# Altium schematic symbol library ICs.SchLib: 182 symbols (part 1 of 2)
Pins are listed as number, name and electrical type; pins without a type are passive.

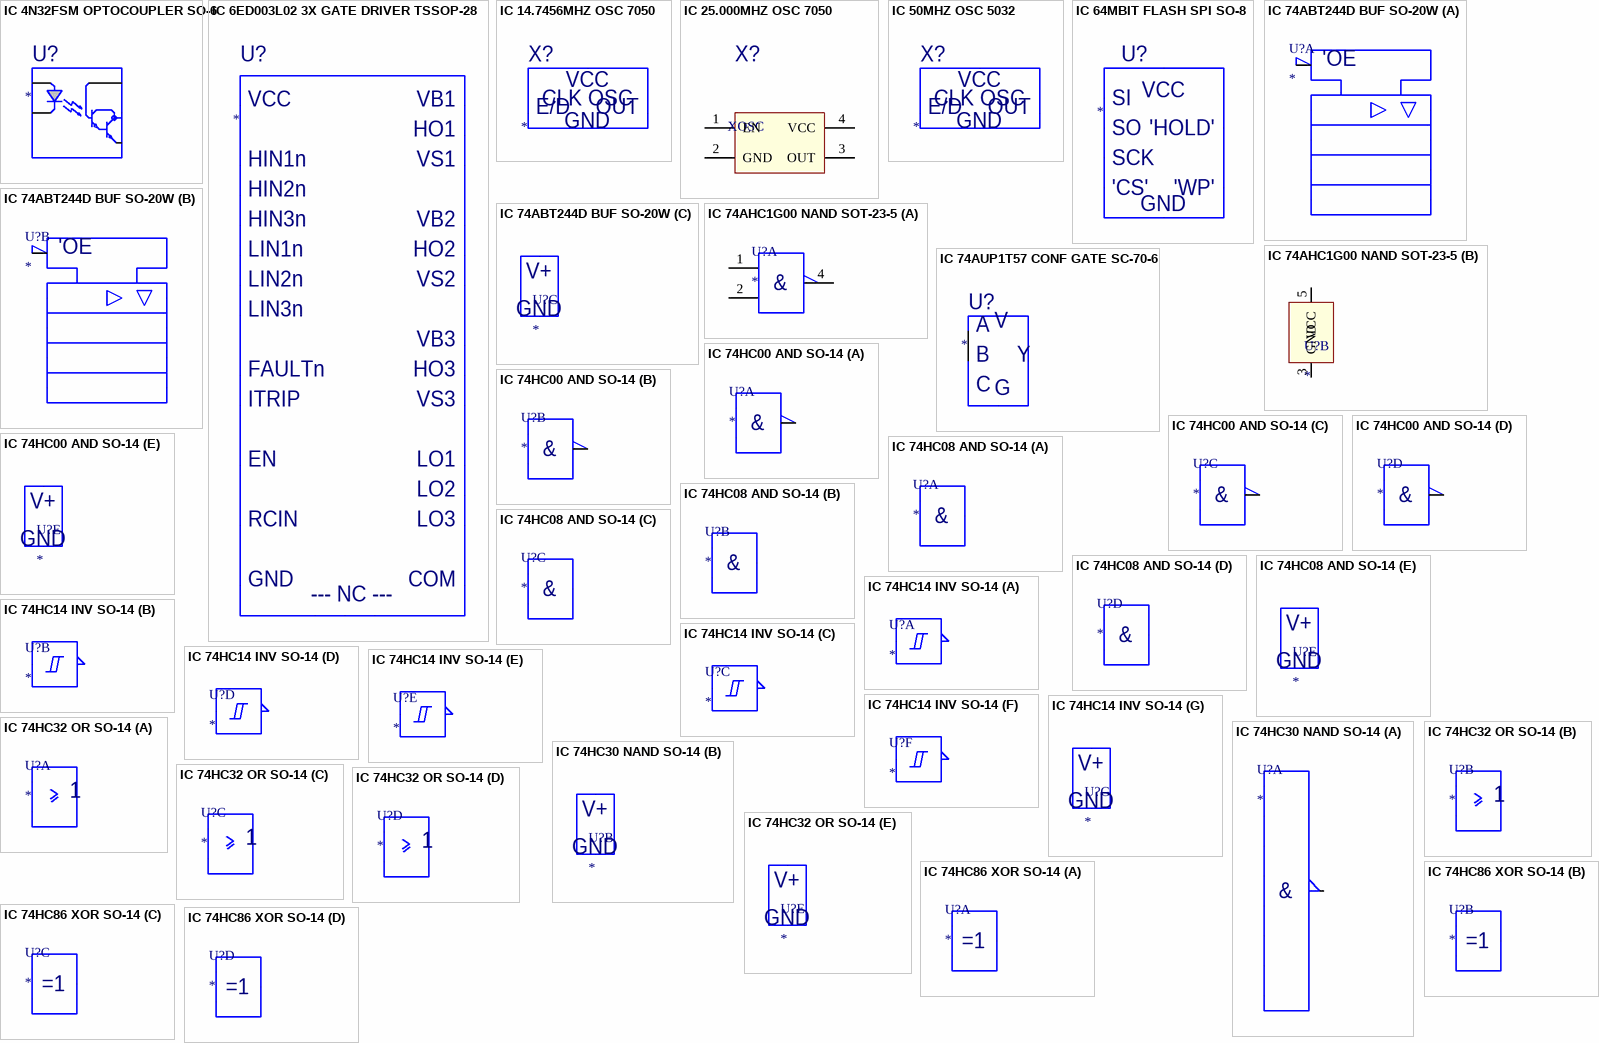
[diagram p0: symbols IC 4N32FSM OPTOCOUPLER SO-6 to IC 74HC86 XOR SO-14]

## IC 4N32FSM OPTOCOUPLER SO-6
designator U?
=Description
pins: 1, 2, 4, 5, 6

## IC 6ED003L02 3X GATE DRIVER TSSOP-28
designator U?
=Description
pins: 1, 2, 3, 4, 5, 6, 7, 8, 9, 10, 11, 12, 13, 14, 15, 16, 17, 18, 19, 20, 21, 22, 23, 24, 25, 26, 27, 28
text: VCC; VB1; HO1; HIN1n; VS1; HIN2n; HIN3n; VB2; LIN1n; HO2; LIN2n; VS2; LIN3n; VB3; FAULTn; HO3; ITRIP; VS3; EN; LO1; LO2; RCIN; LO3; GND; COM; --- NC ---

## IC 14.7456MHZ OSC 7050
designator X?
=Description
pins: 1, 2, 3, 4
text: VCC; CLK OSC; E/D; GND; OUT

## IC 25.000MHZ OSC 7050
designator X?, comment XOSC
=Description
pins: 1 EN, 2 GND, 3 OUT, 4 VCC

## IC 50MHZ OSC 5032
designator X?
=Description
pins: 1, 2, 3, 4
text: VCC; CLK OSC; E/D; GND; OUT

## IC 64MBIT FLASH SPI SO-8
designator U?
=Description
pins: 1, 2, 3, 4, 5, 6, 7, 8
text: VCC; SI; SO; 'HOLD'; SCK; 'CS'; 'WP'; GND

## IC 74ABT244D BUF SO-20W
designator U?
=Description
part A pins: 1, 2, 4, 6, 8, 12, 14, 16, 18
part B pins: 3, 5, 7, 9, 11, 13, 15, 17, 19
part C pins: 10, 20
part A text: 'OE
part B text: 'OE
part C text: V+; GND

## IC 74AHC1G00 NAND SOT-23-5
designator U?
=Description
part A pins: 1 A, 2 B, 4 Y
part B pins: 3 GND, 5 VCC
part A text: &

## IC 74AUP1T57 CONF GATE SC-70-6
designator U?
=Description
pins: 1, 2, 3, 4, 5, 6
text: V; A; B; Y; C; G

## IC 74HC00 AND SO-14
designator U?
=Description
part A pins: 1, 2, 3
part B pins: 4, 5, 6
part C pins: 8, 9, 10
part D pins: 11, 12, 13
part E pins: 7, 14
part A text: &
part B text: &
part C text: &
part D text: &
part E text: V+; GND

## IC 74HC08 AND SO-14
designator U?
=Description
part A pins: 1, 2, 3
part B pins: 4, 5, 6
part C pins: 8, 9, 10
part D pins: 11, 12, 13
part E pins: 7, 14
part A text: &
part B text: &
part C text: &
part D text: &
part E text: V+; GND

## IC 74HC14 INV SO-14
designator U?
=Description
part A pins: 1, 2
part B pins: 3, 4
part C pins: 5, 6
part D pins: 8, 9
part E pins: 10, 11
part F pins: 12, 13
part G pins: 7, 14
part G text: V+; GND

## IC 74HC30 NAND SO-14
designator U?
=Description
part A pins: 1, 2, 3, 4, 5, 6, 8, 11, 12
part B pins: 7, 14
part A text: &
part B text: V+; GND

## IC 74HC32 OR SO-14
designator U?
=Description
part A pins: 1, 2, 3
part B pins: 4, 5, 6
part C pins: 8, 9, 10
part D pins: 11, 12, 13
part E pins: 7, 14
part E text: V+; GND

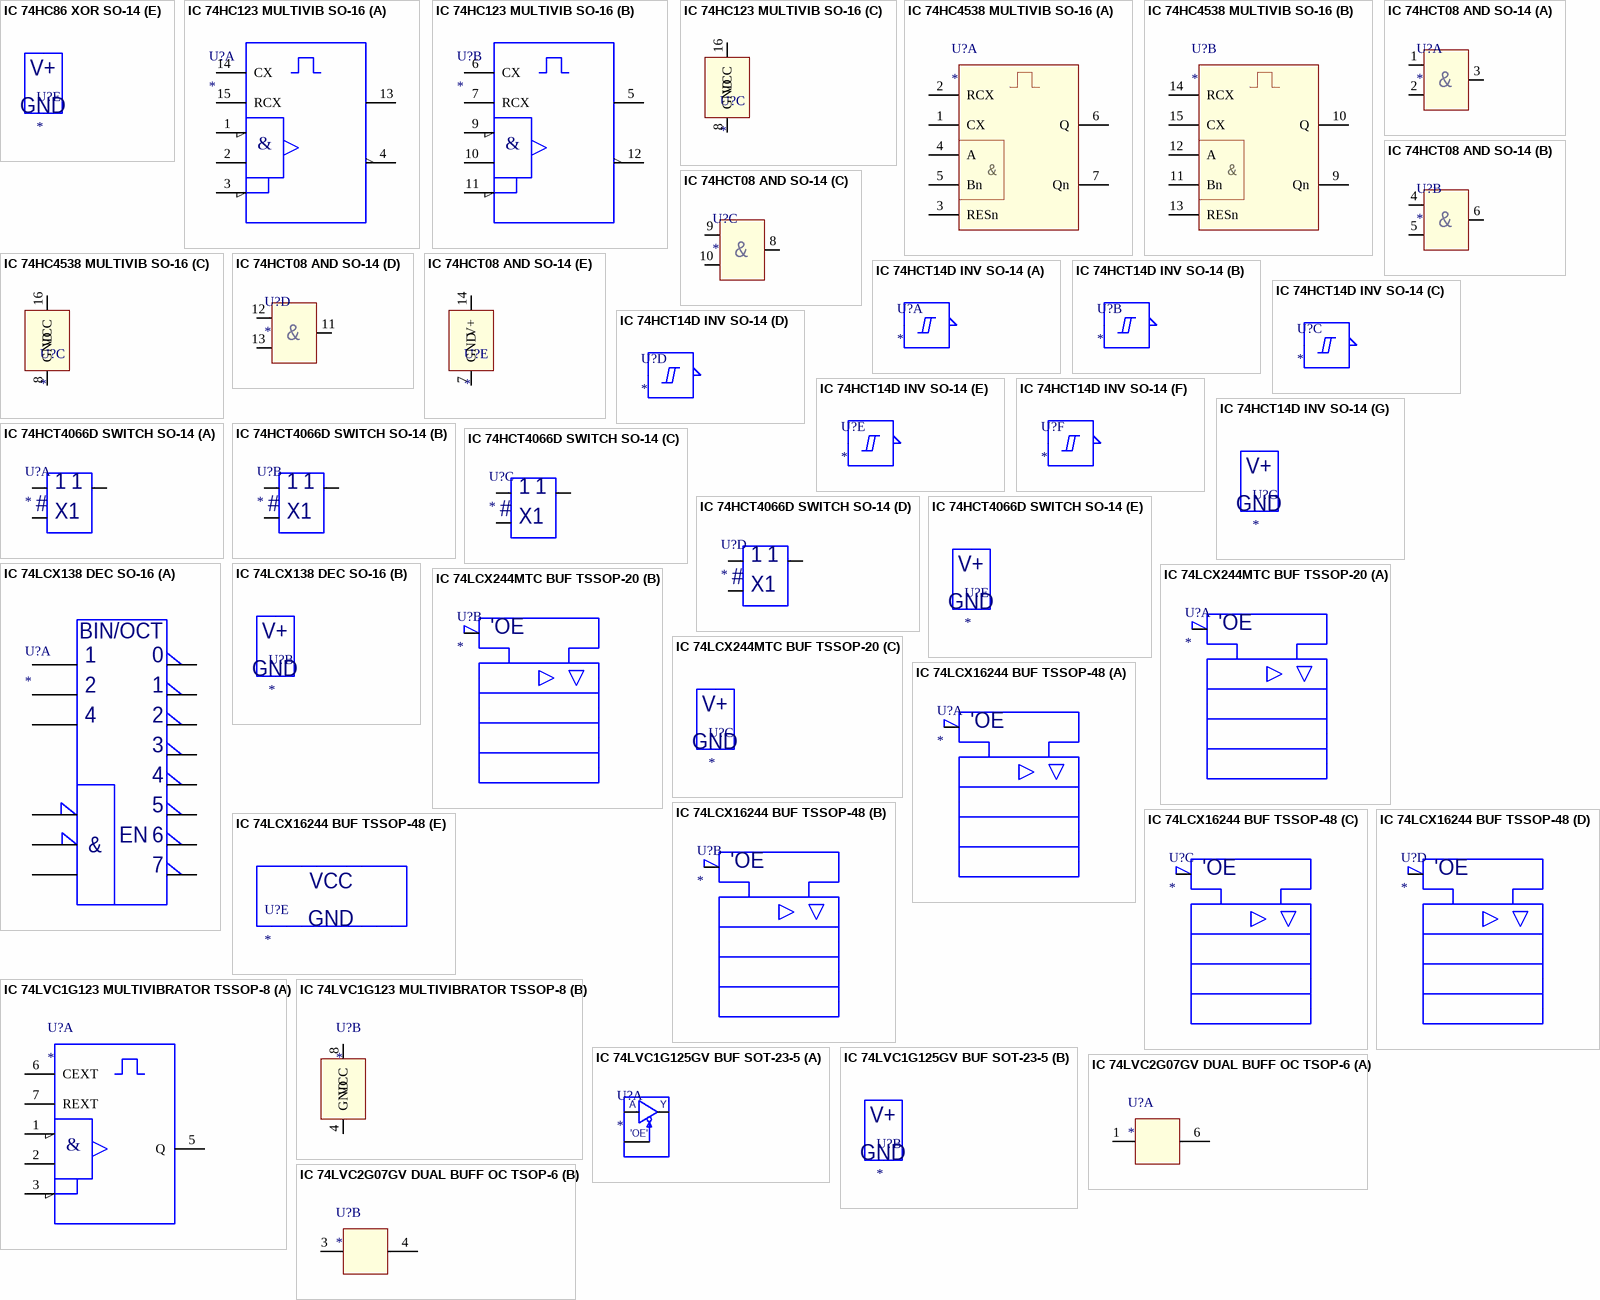
[diagram p1: symbols IC 74HC86 XOR SO-14 to IC 74LVC2G07GV DUAL BUFF OC TSOP-6]

## IC 74HC86 XOR SO-14
designator U?
=Description
part A pins: 1, 2, 3
part B pins: 4, 5, 6
part C pins: 8, 9, 10
part D pins: 11, 12, 13
part E pins: 7, 14
part E text: V+; GND

## IC 74HC123 MULTIVIB SO-16
designator U?
=Description
part A pins: 1, 2, 3, 4, 13, 14 CX, 15 RCX
part B pins: 5, 6 CX, 7 RCX, 9, 10, 11, 12
part C pins: 8 GND, 16 VCC
part A text: &
part B text: &

## IC 74HC4538 MULTIVIB SO-16
designator U?
=Description
part A pins: 1 CX, 2 RCX, 3 RESn, 4 A, 5 Bn, 6 Q, 7 Qn
part B pins: 9 Qn, 10 Q, 11 Bn, 12 A, 13 RESn, 14 RCX, 15 CX
part C pins: 8 GND, 16 VCC
part A text: &
part B text: &

## IC 74HCT08 AND SO-14
designator U?
=Description
part A pins: 1, 2, 3
part B pins: 4, 5, 6
part C pins: 8, 9, 10
part D pins: 11, 12, 13
part E pins: 7 GND, 14 V+
part A text: &
part B text: &
part C text: &
part D text: &

## IC 74HCT14D INV SO-14
designator U?
=Description
part A pins: 1, 2
part B pins: 3, 4
part C pins: 5, 6
part D pins: 8, 9
part E pins: 10, 11
part F pins: 12, 13
part G pins: 7, 14
part G text: V+; GND

## IC 74HCT4066D SWITCH SO-14
designator U?
=Description
part A pins: 1, 2, 13
part B pins: 3, 4, 5
part C pins: 6, 8, 9
part D pins: 10, 11, 12
part E pins: 7, 14
part A text: #; X1
part B text: #; X1
part C text: #; X1
part D text: #; X1
part E text: V+; GND

## IC 74LCX138 DEC SO-16
designator U?
=Description
part A pins: 1, 2, 3, 4, 5, 6, 7, 9, 10, 11, 12, 13, 14, 15
part B pins: 8, 16
part A text: BIN/OCT; 0; &; EN
part B text: V+; GND

## IC 74LCX244MTC BUF TSSOP-20
designator U?
=Description
part A pins: 1, 2, 4, 6, 8, 12, 14, 16, 18
part B pins: 3, 5, 7, 9, 11, 13, 15, 17, 19
part C pins: 10, 20
part A text: 'OE
part B text: 'OE
part C text: V+; GND

## IC 74LCX16244 BUF TSSOP-48
designator U?
=Description
part A pins: 1, 2, 3, 5, 6, 43, 44, 46, 47
part B pins: 8, 9, 11, 12, 37, 38, 40, 41, 48
part C pins: 13, 14, 16, 17, 25, 32, 33, 35, 36
part D pins: 19, 20, 22, 23, 24, 26, 27, 29, 30
part E pins: 4, 7, 10, 15, 18, 21, 28, 31, 34, 39, 42, 45
part A text: 'OE
part B text: 'OE
part C text: 'OE
part D text: 'OE
part E text: VCC; GND

## IC 74LVC1G123 MULTIVIBRATOR TSSOP-8
designator U?
=Description
part A pins: 1, 2, 3, 5 Q, 6 CEXT, 7 REXT
part B pins: 4 GND, 8 VCC
part A text: &

## IC 74LVC1G125GV BUF SOT-23-5
designator U?
=Description
part A pins: 1, 2, 4
part B pins: 3, 5
part A text: A; Y; 'OE'
part B text: V+; GND

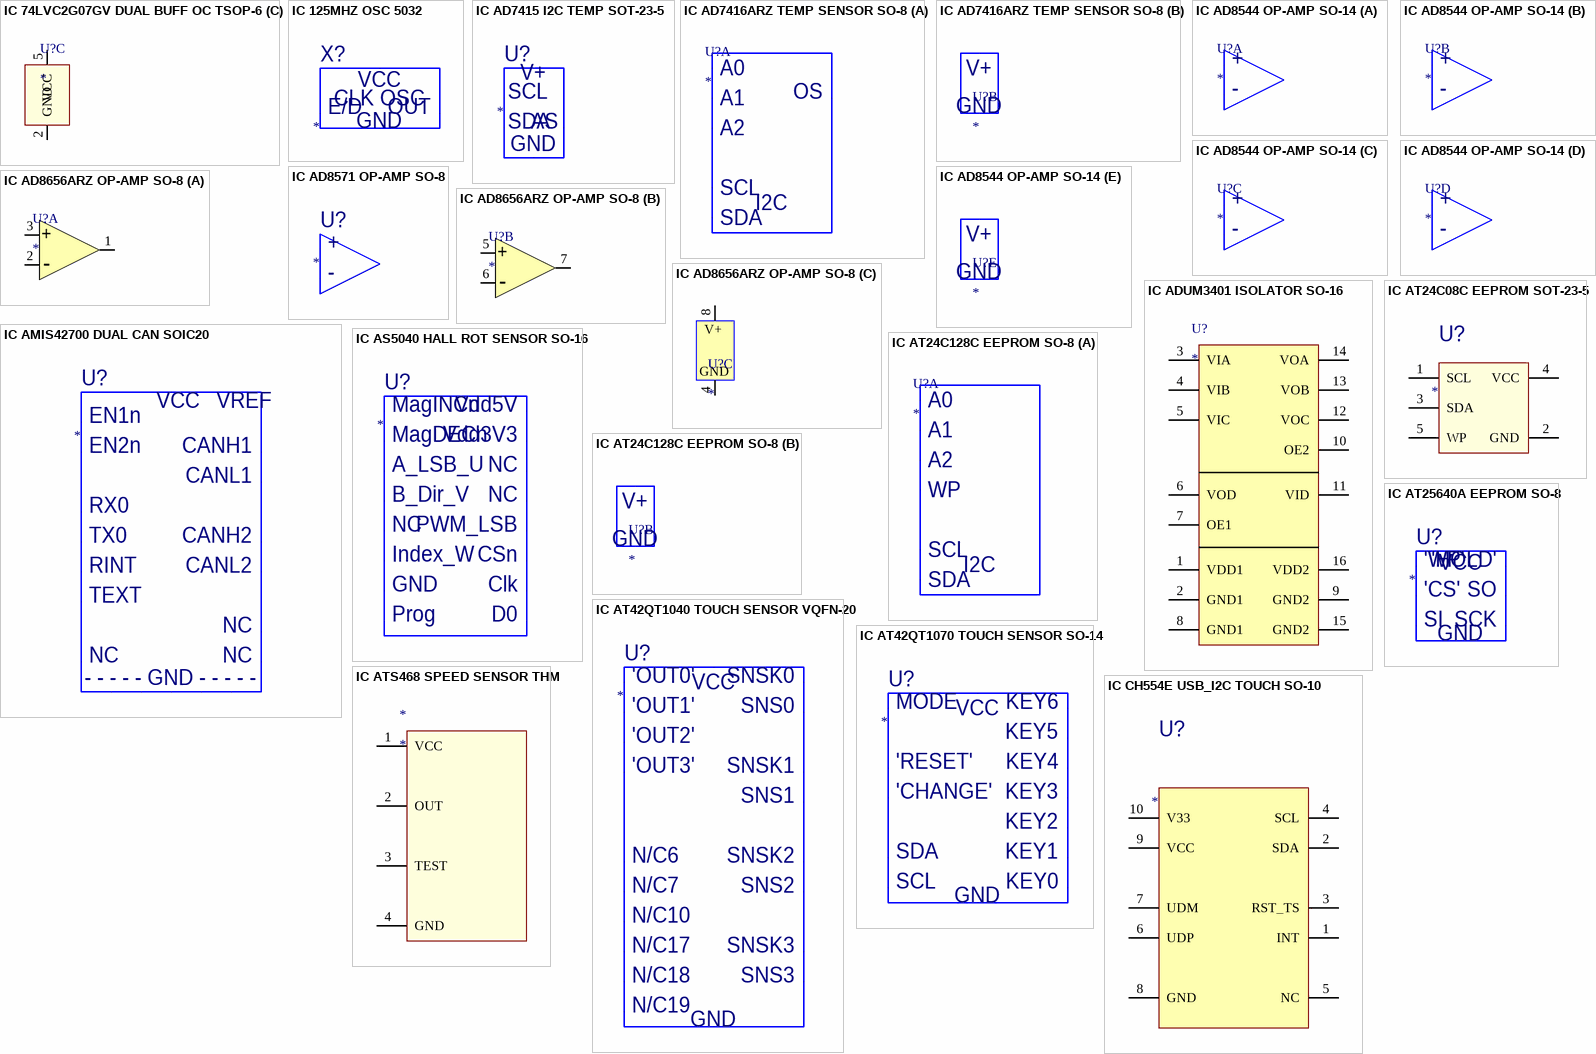
[diagram p2: symbols IC 74LVC2G07GV DUAL BUFF OC TSOP-6 to IC CH554E USB_I2C TOUCH SO-10]

## IC 74LVC2G07GV DUAL BUFF OC TSOP-6
designator U?
=Description
part A pins: 1, 6
part B pins: 3, 4
part C pins: 2 GND, 5 VCC

## IC 125MHZ OSC 5032
designator X?
=Description
pins: 1, 2, 3, 4
text: VCC; CLK OSC; E/D; GND; OUT

## IC AD7415 I2C TEMP SOT-23-5
designator U?
=Description
pins: 1, 2, 3, 4, 5
text: V+; SCL; SDA; AS; GND

## IC AD7416ARZ TEMP SENSOR SO-8
designator U?
=Description
part A pins: 1, 2, 3, 5, 6, 7
part B pins: 4, 8
part A text: A0; A1; OS; A2; SCL; I2C; SDA
part B text: V+; GND

## IC AD8544 OP-AMP SO-14
designator U?
=Description
part A pins: 1, 2, 3
part B pins: 5, 6, 7
part C pins: 8, 9, 10
part D pins: 12, 13, 14
part E pins: 4, 11
part A text: +; -
part B text: +; -
part C text: +; -
part D text: +; -
part E text: V+; GND

## IC AD8571 OP-AMP SO-8
designator U?
=Description
pins: 2, 3, 4, 6, 7
text: +; -

## IC AD8656ARZ OP-AMP SO-8
designator U?
=Description
part A pins: 1, 2, 3
part B pins: 5, 6, 7
part C pins: 4, 8
part A text: +; -
part B text: +; -
part C text: V+; GND

## IC ADUM3401 ISOLATOR SO-16
designator U?
=Description
pins: 1 VDD1 "Supply Voltage for Isolator Side 1.", 2 GND1 "Ground 1. Ground reference for Isolator Side 1.", 3 VIA "Logic Input A.", 4 VIB "Logic Input B.", 5 VIC "Logic Input C.", 6 VOD "Logic Output D.", 7 OE1 "Output Enable 1. Active high logic input. VOD output is enabled when VE1 is high or disconnected. VOD is disabled when VE1 is low. In noisy environments, connecting VE1 to an external logic high or low is recommended.", 8 GND1 "Ground 1. Ground reference for Isolator Side 1.", 9 GND2 "Ground 2. Ground reference for Isolator Side 2.", 10 OE2 "Output Enable 2. Active high logic input. VOA, VOB, and VOC outputs are enabled when VE2 is high or disconnected. VOA, VOB, and VOC outputs are disabled when VE2 is low. In noisy environments, connecting VE2 to an external (See Datasheet)", 11 VID "Logic Input D.", 12 VOC "Logic Output C.", 13 VOB "Logic Output B.", 14 VOA "Logic Output A.", 15 GND2 "Ground 2. Ground reference for Isolator Side 2.", 16 VDD2 "Supply Voltage for Isolator Side 2."

## IC AMIS42700 DUAL CAN SOIC20
designator U?
=Description
pins: 1, 2, 3, 4, 5, 6, 7, 8, 9, 10, 11, 12, 13, 14, 15, 16, 17, 18, 19, 20
text: VCC; VREF; EN1n; EN2n; CANH1; CANL1; RX0; TX0; CANH2; RINT; CANL2; TEXT; NC; - - - - - GND - - - - -

## IC AS5040 HALL ROT SENSOR SO-16
designator U?
=Description
pins: 1, 2, 3, 4, 5, 6, 7, 8, 9, 10, 11, 12, 13, 14, 15, 16
text: MagINCn; Vdd5V; MagDECn; Vdd3V3; A_LSB_U; NC; B_Dir_V; PWM_LSB; Index_W; CSn; GND; Clk; Prog; D0

## IC AT24C08C EEPROM SOT-23-5
designator U?
=Description
pins: 1 SCL, 2 GND, 3 SDA, 4 VCC, 5 WP

## IC AT24C128C EEPROM SO-8
designator U?
=Description
part A pins: 1, 2, 3, 5, 6, 7
part B pins: 4, 8
part A text: A0; A1; A2; WP; SCL; I2C; SDA
part B text: V+; GND

## IC AT42QT1040 TOUCH SENSOR VQFN-20
designator U?
=Description
pins: 1, 2, 3, 4, 5, 6, 7, 8, 9, 10, 11, 12, 13, 14, 15, 16, 17, 18, 19, 20
text: VCC; 'OUT0'; SNSK0; 'OUT1'; SNS0; 'OUT2'; 'OUT3'; SNSK1; SNS1; N/C6; SNSK2; N/C7; SNS2; N/C10; N/C17; SNSK3; N/C18; SNS3; N/C19; GND

## IC AT42QT1070 TOUCH SENSOR SO-14
designator U?
=Description
pins: 1, 2, 3, 4, 5, 6, 7, 8, 9, 10, 11, 12, 13, 14
text: VCC; MODE; KEY6; KEY5; 'RESET'; KEY4; 'CHANGE'; KEY3; KEY2; SDA; KEY1; SCL; GND; KEY0

## IC AT25640A EEPROM SO-8
designator U?
=Description
pins: 1, 2, 3, 4, 5, 6, 7, 8
text: VCC; 'WP'; 'HOLD'; 'CS'; SO; SI; GND; SCK

## IC ATS468 SPEED SENSOR THM
designator *
=Description
pins: 1 VCC, 2 OUT, 3 TEST, 4 GND

## IC CH554E USB_I2C TOUCH SO-10
designator U?
=Description
pins: 1 INT "CAN transmit data input (LOW for dominant and HIGH for recessive bus states), also called TXD, driver input", 2 SDA (power) "Ground connection", 3 RST_TS (power) "Transceiver 3.3V supply voltage", 4 SCL "CAN receive data output (LOW for dominant and HIGH for recessive bus states), also called RXD, receiver output", 5 NC "SN65HVD230 and SN65HVD231: VCC / 2 reference output pin", 6 UDP "Low level CAN bus line", 7 UDM "High level CAN bus line", 8 GND "SN65HVD230 and SN65HVD231: Mode select pin: strong pull down to GND = high speed mode, strong pull up to VCC = low power mode, 10kohm to 100kohm pull down to GND = slope control mode", 9 VCC "SN65HVD230 and SN65HVD231: Mode select pin: strong pull down to GND = high speed mode, strong pull up to VCC = low power mode, 10kohm to 100kohm pull down to GND = slope control mode", 10 V33 "SN65HVD230 and SN65HVD231: Mode select pin: strong pull down to GND = high speed mode, strong pull up to VCC = low power mode, 10kohm to 100kohm pull down to GND = slope control mode"

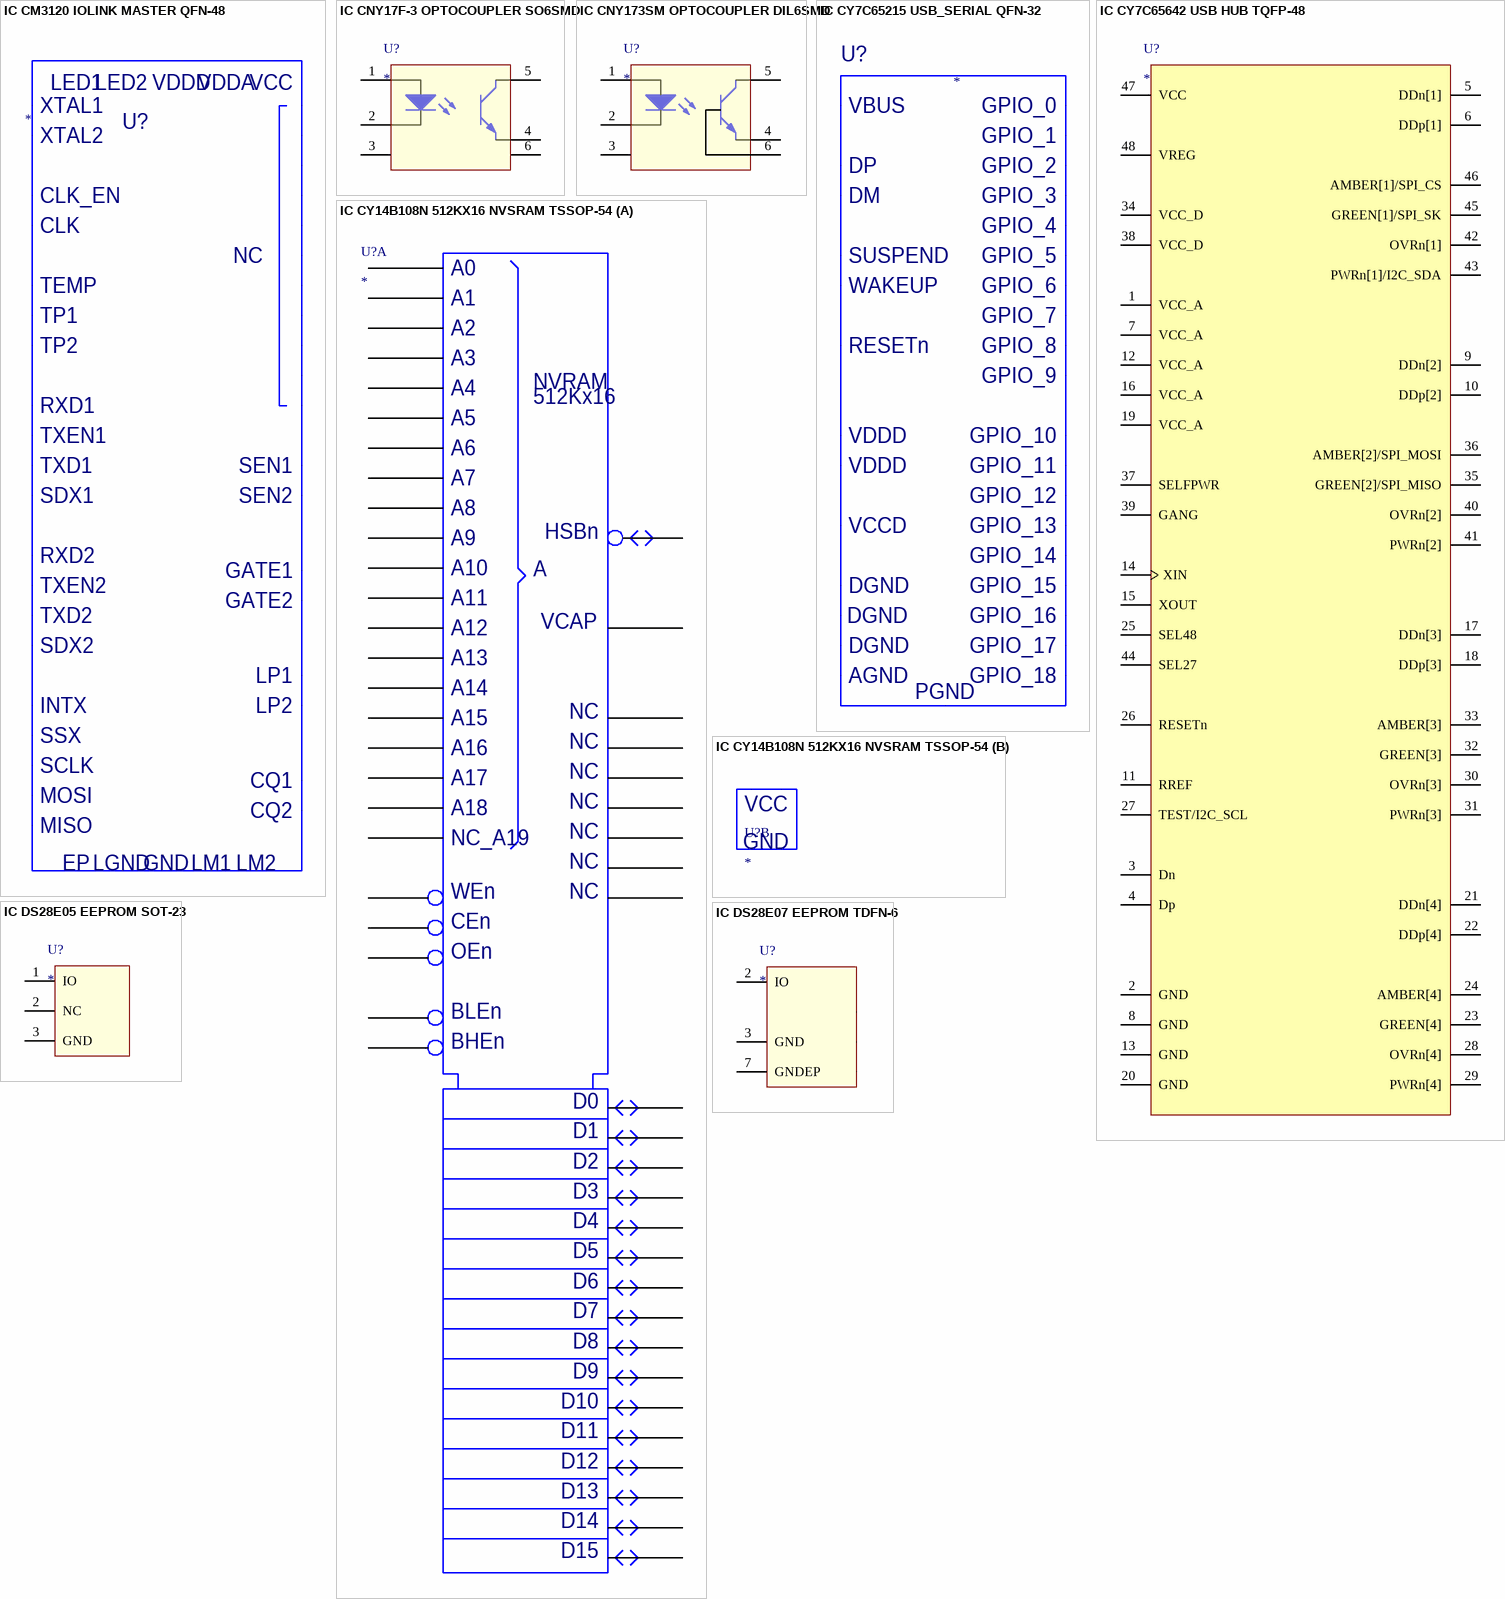
[diagram p3: symbols IC CM3120 IOLINK MASTER QFN-48 to IC DS28E07 EEPROM TDFN-6]

## IC CM3120 IOLINK MASTER QFN-48
designator U?
=Description
pins: 1, 2, 3, 4, 5, 6, 7, 8, 9, 10, 11, 12, 13, 14, 15, 16, 17, 18, 19, 20, 21, 22, 23, 24, 25, 26, 27, 28, 29, 30, 31, 32, 33, 34, 35, 36, 37, 38, 39, 40, 41, 42, 43, 44, 45, 46, 47, 48, 49
text: LED1; LED2; VDDD; VDDA; VCC; XTAL1; XTAL2; CLK_EN; CLK; NC; TEMP; TP1; TP2; RXD1; TXEN1; TXD1; SEN1; SDX1; SEN2; RXD2; GATE1; TXEN2; GATE2; TXD2; SDX2; LP1; INTX; LP2; SSX; SCLK; CQ1; MOSI; CQ2; MISO; EP; LGND; GND; LM1; LM2

## IC CNY17F-3 OPTOCOUPLER SO6SMD
designator U?
=Description
pins: 1 ANODE, 2 CATHODE, 3 NC, 4 EMITTER, 5 COLLECTOR, 6 NC

## IC CNY173SM OPTOCOUPLER DIL6SMD
designator U?
=Description
pins: 1 ANODE, 2 CATHODE, 3 NC, 4 EMITTER, 5 COLLECTOR, 6 NC

## IC CY7C65215 USB_SERIAL QFN-32
designator U?
=Description
pins: 1, 2, 3, 4, 5, 6, 7, 8, 9, 10, 11, 12, 13, 14, 15, 16, 17, 18, 19, 20, 21, 22, 23, 24, 25, 26, 27, 28, 29, 30, 31, 32, 33
text: VBUS; GPIO_0; GPIO_1; DP; GPIO_2; DM; GPIO_3; GPIO_4; SUSPEND; GPIO_5; WAKEUP; GPIO_6; GPIO_7; RESETn; GPIO_8; GPIO_9; VDDD; GPIO_10; GPIO_11; GPIO_12; VCCD; GPIO_13; GPIO_14; DGND; GPIO_15; GPIO_16; GPIO_17; AGND; GPIO_18; PGND

## IC CY7C65642 USB HUB TQFP-48
designator U?
=Description
pins: 1 VCC_A (power) "3.3 V analog power to the chip.", 2 GND (power) "Connect to Ground with as short a path as possible.", 3 Dn "Upstream D- Signal.", 4 Dp "Upstream D+ Signal.", 5 DDn[1] "Downstream D- Signal. Downstream D- signal of port 1.", 6 DDp[1] "Downstream D+ Signal. Downstream D+ signal of port 1.", 7 VCC_A (power) "3.3 V analog power to the chip.", 8 GND (power) "Connect to Ground with as short a path as possible.", 9 DDn[2] "Downstream D- Signal. Downstream D- signal of port 2.", 10 DDp[2] "Downstream D+ Signal. Downstream D+ signal of port 2.", 11 RREF "649 ohm resistor must be connected between RREF and Ground.", 12 VCC_A (power) "3.3 V analog power to the chip.", 13 GND (power) "Connect to Ground with as short a path as possible.", 14 XIN "12 MHz crystal clock input, or 12/27/48 MHz clock input.", 15 XOUT "12 MHz Crystal OUT", 16 VCC_A (power) "3.3 V analog power to the chip.", 17 DDn[3] "Downstream D- Signal. Downstream D- signal of port 3.", 18 DDp[3] "Downstream D+ Signal. Downstream D+ signal of port 3.", 19 VCC_A (power) "3.3 V analog power to the chip. NC in CY7C65634.", 20 GND (power) "Connect to Ground with as short a path as possible.", 21 DDn[4] "Downstream D- Signal. Downstream D- signal of port 4.", 22 DDp[4] "Downstream D+ Signal. Downstream D+ signal of port 4.", 23 GREEN[4], 24 AMBER[4], 25 SEL48 "Clock source selection inputs.", 26 RESETn "Active LOW Reset. External reset input, default pull high 10 kW; When RESET = low, whole chip is reset to the initial state.", 27 TEST/I2C_SCL "Test: 0: Normal Operation & 1: Chip will be put in test mode. I2C_SCL: Can be used as I2C clock pin to access I2C EEPROM.", 28 OVRn[4] "Active LOW Overcurrent Condition Detection Input. Overcurrent condition detection input for Port 4. NC in CY7C65634.", 29 PWRn[4] "Power Switch Driver Output. Default is Active LOW. NC in CY7C65634.", 30 OVRn[3] "Active LOW Overcurrent Condition Detection Input. Overcurrent condition detection input for Port 3. NC in CY7C65634.", 31 PWRn[3] "Power Switch Driver Output. Default is Active LOW. NC in CY7C65634.", 32 GREEN[3], 33 AMBER[3], 34 VCC_D (power) "3.3 V digital power to the chip.", 35 GREEN[2]/SPI_MISO, 36 AMBER[2]/SPI_MOSI, 37 SELFPWR "Self Power. Input for selecting self/bus power. 0 is bus powered, 1 is self powered.", 38 VCC_D (power) "3.3 V digital power to the chip.", 39 GANG "GANG. Default is input mode after power-on-reset. Gang Mode: Input:1 -> Output is 0 for Normal Operation and 1 for Suspend Individual Mode: Input:0 -> Output is 1 for Normal Operation and 0 for Suspend Refer to (See Datasheet)", 40 OVRn[2] "Active LOW Overcurrent Condition Detection Input. Overcurrent condition detection input for Port 2.", 41 PWRn[2] (hiz) "Power Switch Driver Output. Default is Active LOW.", 42 OVRn[1] "Active LOW Overcurrent Condition Detection Input. Overcurrent condition detection input for Port 1.", 43 PWRn[1]/I2C_SDA, 44 SEL27 "Clock source selection inputs.", 45 GREEN[1]/SPI_SK, 46 AMBER[1]/SPI_CS, 47 VCC (power) "5 V input to the internal regulator; NC if using external regulator", 48 VREG (power) "5-3.3 V regulator o/p during internal regulation; NC if using external regulator."

## IC CY14B108N 512KX16 NVSRAM TSSOP-54
designator U?
=Description
part A pins: 1, 2, 3, 4, 5, 6, 7, 8, 9, 10, 11, 12, 15, 16, 17, 18, 19, 20, 21, 22, 23, 24, 25, 26, 27, 28, 29, 30, 31, 32, 33, 34, 35, 36, 37, 38, 39, 40, 43, 44, 45, 46, 47, 48, 49, 50, 51, 52, 53, 54
part B pins: 13, 14, 41, 42
part A text: A0; A1; A2; A3; A4; NVRAM; 512Kx16; A5; A6; A7; A8; A9; HSBn; A10; A; A11; A12; VCAP; A13; A14; A15; NC; A16; A17; A18; NC_A19; WEn; CEn; OEn; BLEn; BHEn; D0; D1; D2; D3; D4; D5; D6; D7; D8; D9; D10; D11; D12; D13; D14; D15
part B text: VCC; GND

## IC DS28E05 EEPROM SOT-23
designator U?
=Description
pins: 1 IO, 2 NC, 3 GND

## IC DS28E07 EEPROM TDFN-6
designator U?
=Description
pins: 1 NC, 2 IO, 3 GND, 4 NC, 5 NC, 6 NC, 7 GNDEP

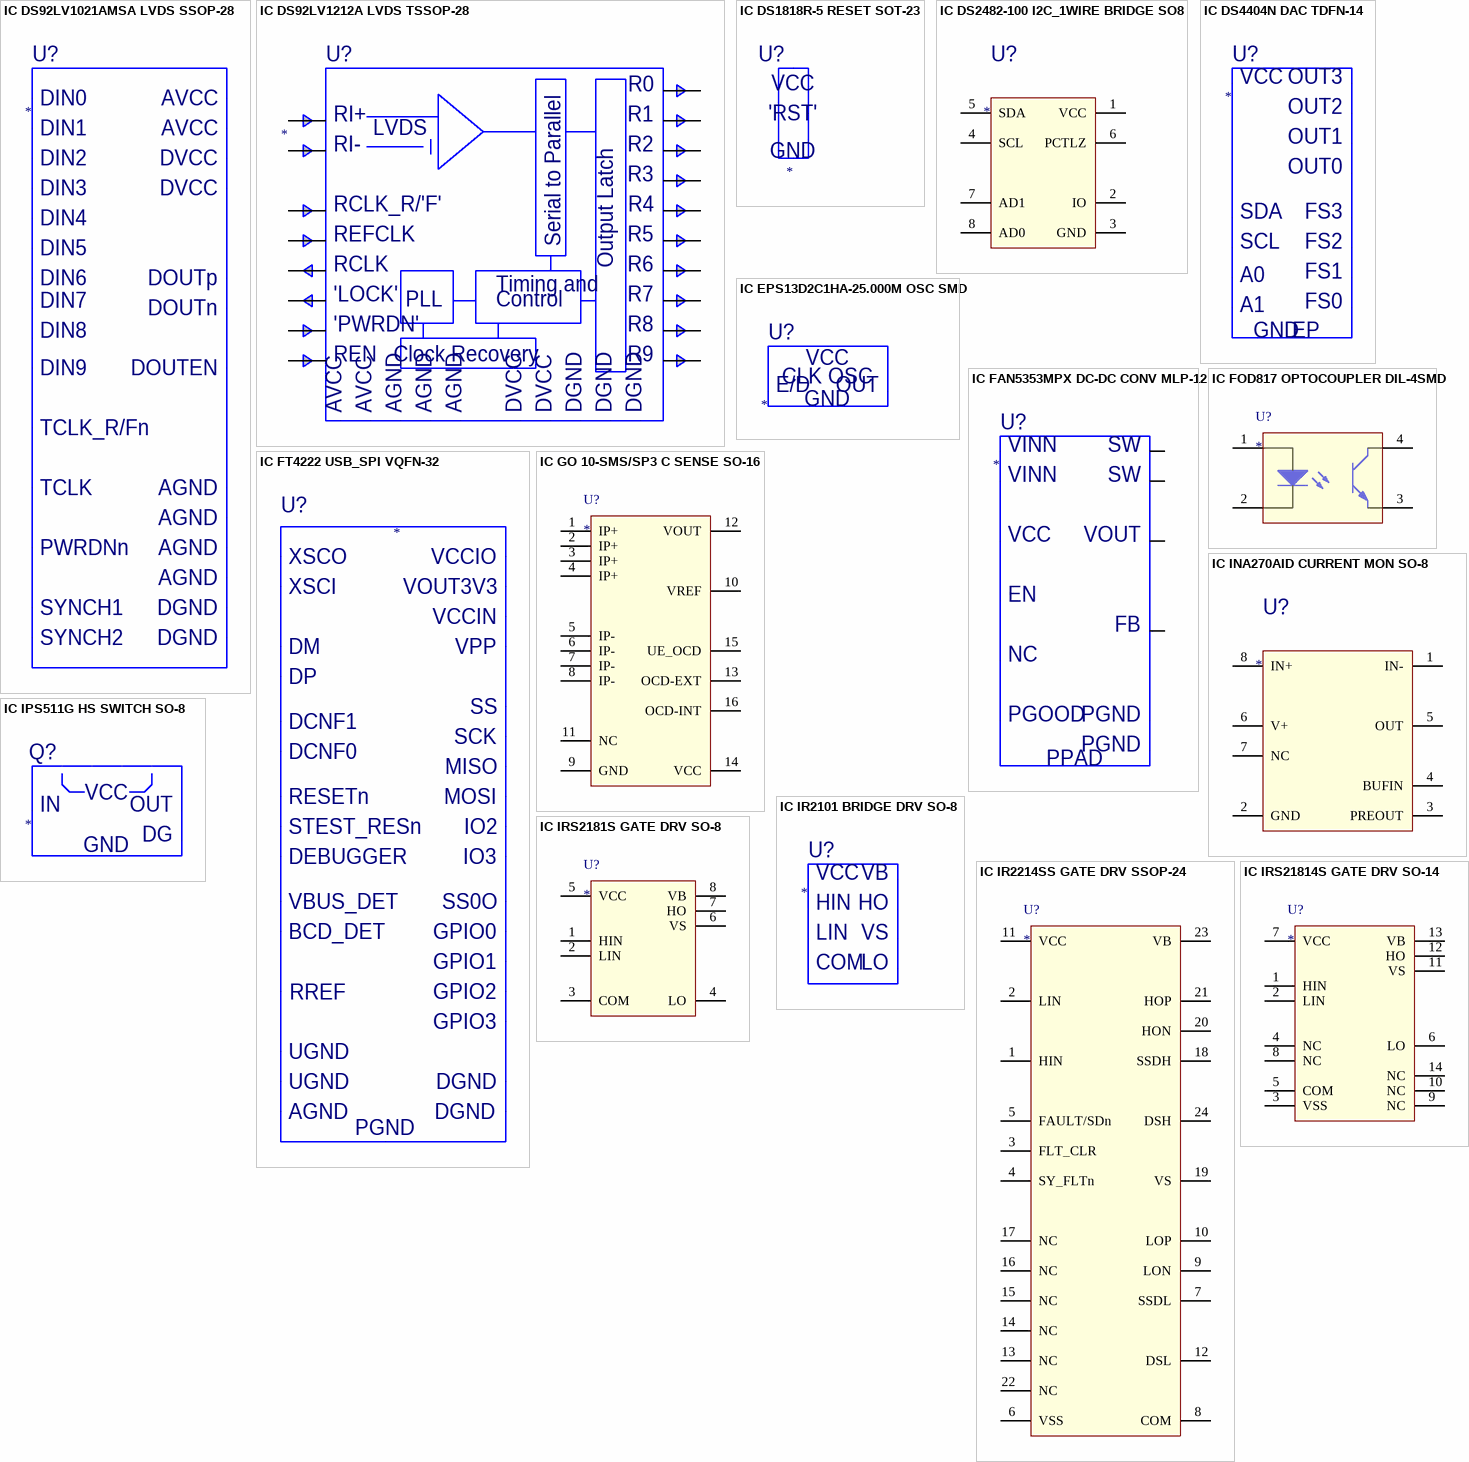
[diagram p4: symbols IC DS92LV1021AMSA LVDS SSOP-28 to IC IRS21814S GATE DRV SO-14]

## IC DS92LV1021AMSA LVDS SSOP-28
designator U?
=Description
pins: 1, 2, 3, 4, 5, 6, 7, 8, 9, 10, 11, 12, 13, 14, 15, 16, 17, 18, 19, 20, 21, 22, 23, 24, 25, 26, 27, 28
text: DIN0; AVCC; DIN1; DIN2; DVCC; DIN3; DIN4; DIN5; DIN6; DOUTp; DIN7; DOUTn; DIN8; DIN9; DOUTEN; TCLK_R/Fn; TCLK; AGND; PWRDNn; SYNCH1; DGND; SYNCH2

## IC DS92LV1212A LVDS TSSOP-28
designator U?
=Description
pins: 1, 2, 3, 4, 5, 6, 7, 8, 9, 10, 11, 12, 13, 14, 15, 16, 17, 18, 19, 20, 21, 22, 23, 24, 25, 26, 27, 28
text: R0; RI+; R1; LVDS; RI-; R2; Serial to Parallel; R3; RCLK_R/'F'; R4; REFCLK; R5; Output Latch; RCLK; R6; PLL; Timing and; 'LOCK'; R7; Control; 'PWRDN'; R8; Clock Recovery; REN; R9; AVCC; AGND; DVCC; DGND

## IC DS1818R-5 RESET SOT-23
designator U?
=Description
pins: 1, 2, 3
text: VCC; 'RST'; GND

## IC DS2482-100 I2C_1WIRE BRIDGE SO8
designator U?
=Description
pins: 1 VCC, 2 IO, 3 GND, 4 SCL, 5 SDA, 6 PCTLZ, 7 AD1, 8 AD0

## IC DS4404N DAC TDFN-14
designator U?
=Description
pins: 1, 2, 3, 4, 5, 6, 7, 8, 9, 10, 11, 12, 13, 14, 15
text: VCC; OUT3; OUT2; OUT1; OUT0; SDA; FS3; SCL; FS2; FS1; A0; FS0; A1; GND; EP

## IC EPS13D2C1HA-25.000M OSC SMD
designator U?
=Description
pins: 1, 2, 3, 4
text: VCC; CLK OSC; E/D; GND; OUT

## IC FAN5353MPX DC-DC CONV MLP-12
designator U?
=Description
pins: 1, 2, 3, 4, 5, 6, 7, 8, 9, 10, 11, 12, 13
text: VINN; SW; VCC; VOUT; EN; FB; NC; PGOOD; PGND; PPAD

## IC FOD817 OPTOCOUPLER DIL-4SMD
designator U?
=Description
pins: 1 ANODE, 2 CATHODE, 3 EMITTER, 4 COLLECTOR

## IC FT4222 USB_SPI VQFN-32
designator U?
=Description
pins: 1, 2, 3, 4, 5, 6, 7, 8, 9, 10, 11, 12, 13, 14, 15, 16, 17, 18, 19, 20, 21, 22, 23, 24, 25, 26, 27, 28, 29, 30, 31, 32, 33
text: XSCO; VCCIO; XSCI; VOUT3V3; VCCIN; DM; VPP; DP; SS; DCNF1; SCK; DCNF0; MISO; RESETn; MOSI; STEST_RESn; IO2; DEBUGGER; IO3; VBUS_DET; SS0O; BCD_DET; GPIO0; GPIO1; RREF; GPIO2; GPIO3; UGND; DGND; AGND; PGND

## IC GO 10-SMS/SP3 C SENSE SO-16
designator U?
=Description
pins: 1 IP+, 2 IP+, 3 IP+, 4 IP+, 5 IP-, 6 IP-, 7 IP-, 8 IP-, 9 GND, 10 VREF, 11 NC, 12 VOUT, 13 OCD-EXT, 14 VCC, 15 UE_OCD, 16 OCD-INT

## IC INA270AID CURRENT MON SO-8
designator U?
=Description
pins: 1 IN-, 2 GND, 3 PREOUT, 4 BUFIN, 5 OUT, 6 V+, 7 NC, 8 IN+

## IC IPS511G HS SWITCH SO-8
designator Q?
=Description
pins: 1, 2, 3, 4, 5, 6, 7, 8
text: VCC; IN; OUT; GND; DG

## IC IR2101 BRIDGE DRV SO-8
designator U?
=Description
pins: 1, 2, 3, 4, 5, 6, 7, 8
text: VCC; VB; HIN; HO; LIN; VS; COM; LO

## IC IR2214SS GATE DRV SSOP-24
designator U?
=Description
pins: 1 HIN, 2 LIN, 3 FLT_CLR, 4 SY_FLTn, 5 FAULT/SDn, 6 VSS, 7 SSDL, 8 COM, 9 LON, 10 LOP, 11 VCC, 12 DSL, 13 NC, 14 NC, 15 NC, 16 NC, 17 NC, 18 SSDH, 19 VS, 20 HON, 21 HOP, 22 NC, 23 VB, 24 DSH

## IC IRS2181S GATE DRV SO-8
designator U?
=Description
pins: 1 HIN, 2 LIN, 3 COM, 4 LO, 5 VCC, 6 VS, 7 HO, 8 VB

## IC IRS21814S GATE DRV SO-14
designator U?
=Description
pins: 1 HIN, 2 LIN, 3 VSS, 4 NC, 5 COM, 6 LO, 7 VCC, 8 NC, 9 NC, 10 NC, 11 VS, 12 HO, 13 VB, 14 NC

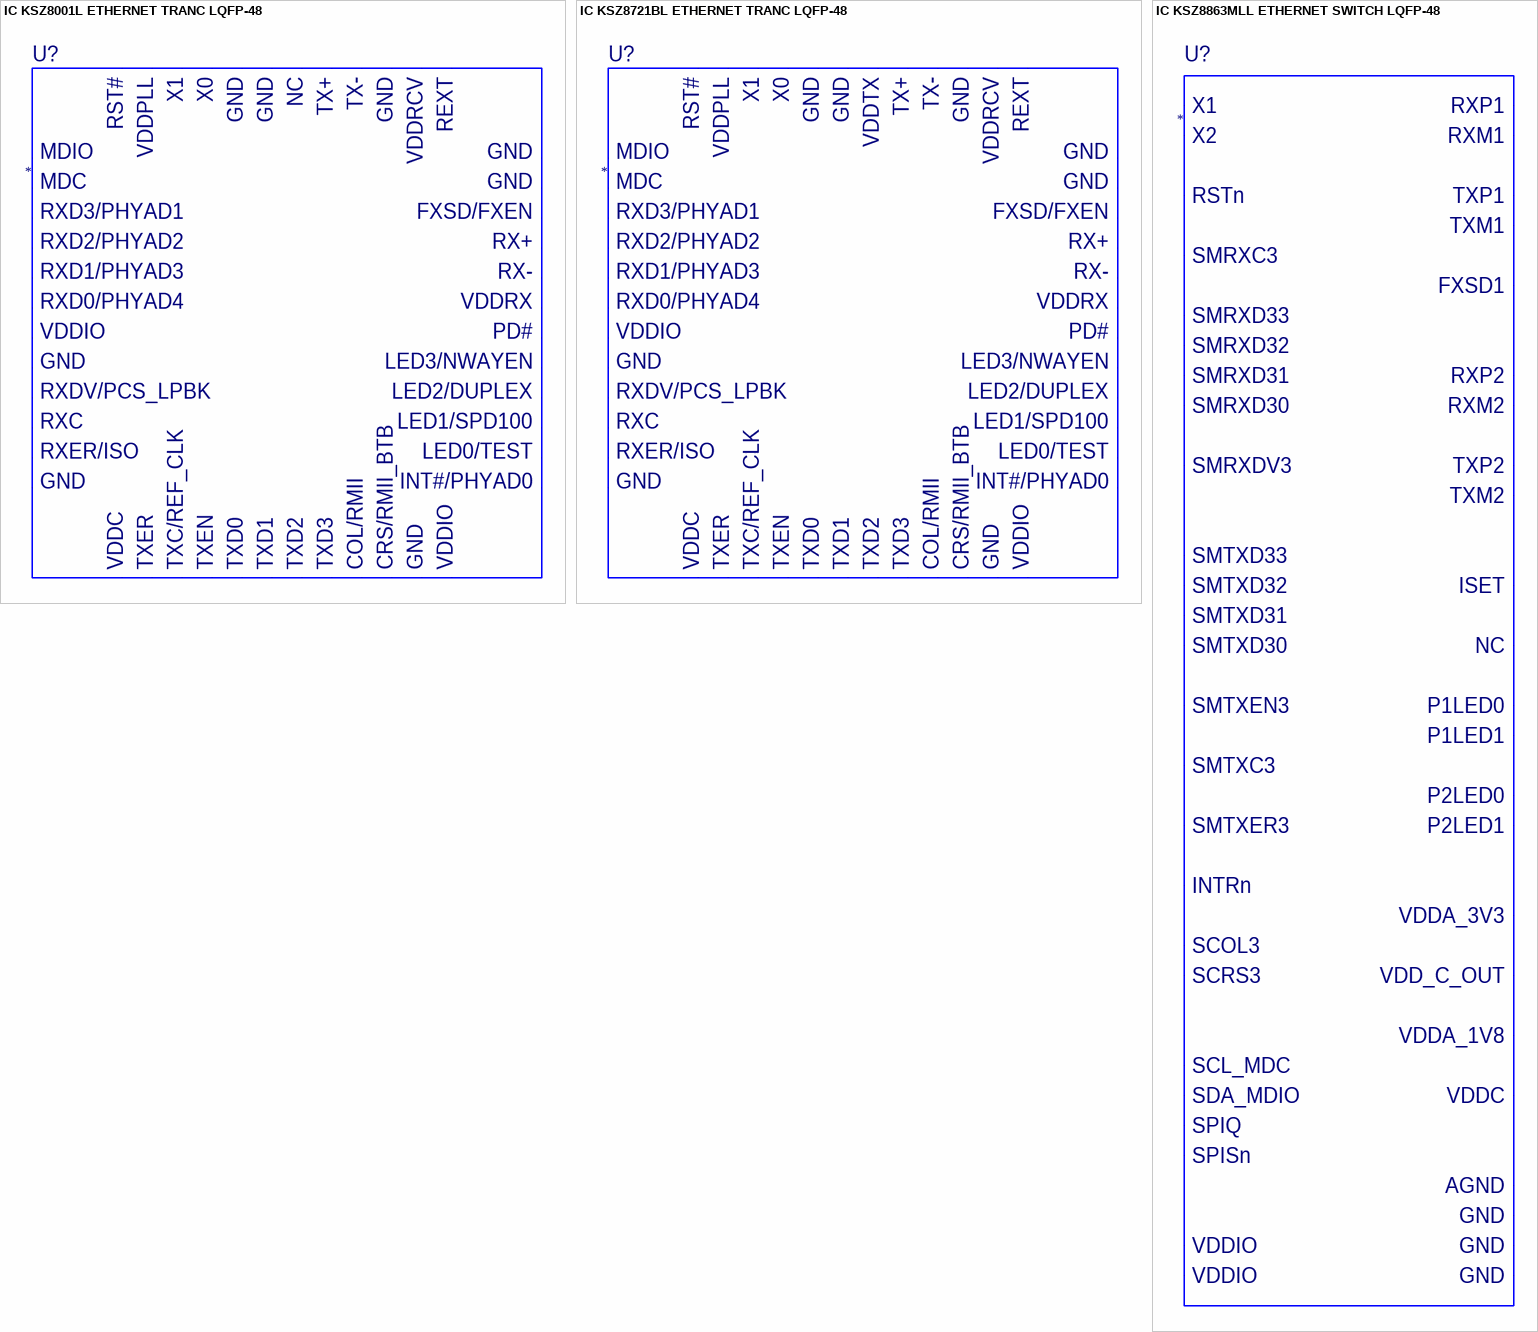
[diagram p5: symbols IC KSZ8001L ETHERNET TRANC LQFP-48 to IC KSZ8863MLL ETHERNET SWITCH LQFP-48]

## IC KSZ8001L ETHERNET TRANC LQFP-48
designator U?
=Description
pins: 1, 2, 3, 4, 5, 6, 7, 8, 9, 10, 11, 12, 13, 14, 15, 16, 17, 18, 19, 20, 21, 22, 23, 24, 25, 26, 27, 28, 29, 30, 31, 32, 33, 34, 35, 36, 37, 38, 39, 40, 41, 42, 43, 44, 45, 46, 47, 48
text: RST#; VDDPLL; X1; X0; GND; NC; TX+; TX-; VDDRCV; REXT; MDIO; MDC; RXD3/PHYAD1; FXSD/FXEN; RXD2/PHYAD2; RX+; RXD1/PHYAD3; RX-; RXD0/PHYAD4; VDDRX; VDDIO; PD#; LED3/NWAYEN; RXDV/PCS_LPBK; LED2/DUPLEX; RXC; LED1/SPD100; RXER/ISO; LED0/TEST; INT#/PHYAD0; VDDC; TXER; TXC/REF_CLK; TXEN; TXD0; TXD1; TXD2; TXD3; COL/RMII; CRS/RMII_BTB

## IC KSZ8721BL ETHERNET TRANC LQFP-48
designator U?
=Description
pins: 1, 2, 3, 4, 5, 6, 7, 8, 9, 10, 11, 12, 13, 14, 15, 16, 17, 18, 19, 20, 21, 22, 23, 24, 25, 26, 27, 28, 29, 30, 31, 32, 33, 34, 35, 36, 37, 38, 39, 40, 41, 42, 43, 44, 45, 46, 47, 48
text: RST#; VDDPLL; X1; X0; GND; VDDTX; TX+; TX-; VDDRCV; REXT; MDIO; MDC; RXD3/PHYAD1; FXSD/FXEN; RXD2/PHYAD2; RX+; RXD1/PHYAD3; RX-; RXD0/PHYAD4; VDDRX; VDDIO; PD#; LED3/NWAYEN; RXDV/PCS_LPBK; LED2/DUPLEX; RXC; LED1/SPD100; RXER/ISO; LED0/TEST; INT#/PHYAD0; VDDC; TXER; TXC/REF_CLK; TXEN; TXD0; TXD1; TXD2; TXD3; COL/RMII; CRS/RMII_BTB

## IC KSZ8863MLL ETHERNET SWITCH LQFP-48
designator U?
=Description
pins: 1, 2, 3, 4, 5, 6, 7, 8, 9, 10, 11, 12, 13, 14, 15, 16, 17, 18, 19, 20, 21, 22, 23, 24, 25, 26, 27, 28, 29, 30, 31, 32, 33, 34, 35, 36, 37, 38, 39, 40, 41, 42, 43, 44, 45, 46, 47, 48
text: X1; RXP1; X2; RXM1; RSTn; TXP1; TXM1; SMRXC3; FXSD1; SMRXD33; SMRXD32; SMRXD31; RXP2; SMRXD30; RXM2; SMRXDV3; TXP2; TXM2; SMTXD33; SMTXD32; ISET; SMTXD31; SMTXD30; NC; SMTXEN3; P1LED0; P1LED1; SMTXC3; P2LED0; SMTXER3; P2LED1; INTRn; VDDA_3V3; SCOL3; SCRS3; VDD_C_OUT; VDDA_1V8; SCL_MDC; SDA_MDIO; VDDC; SPIQ; SPISn; AGND; GND; VDDIO

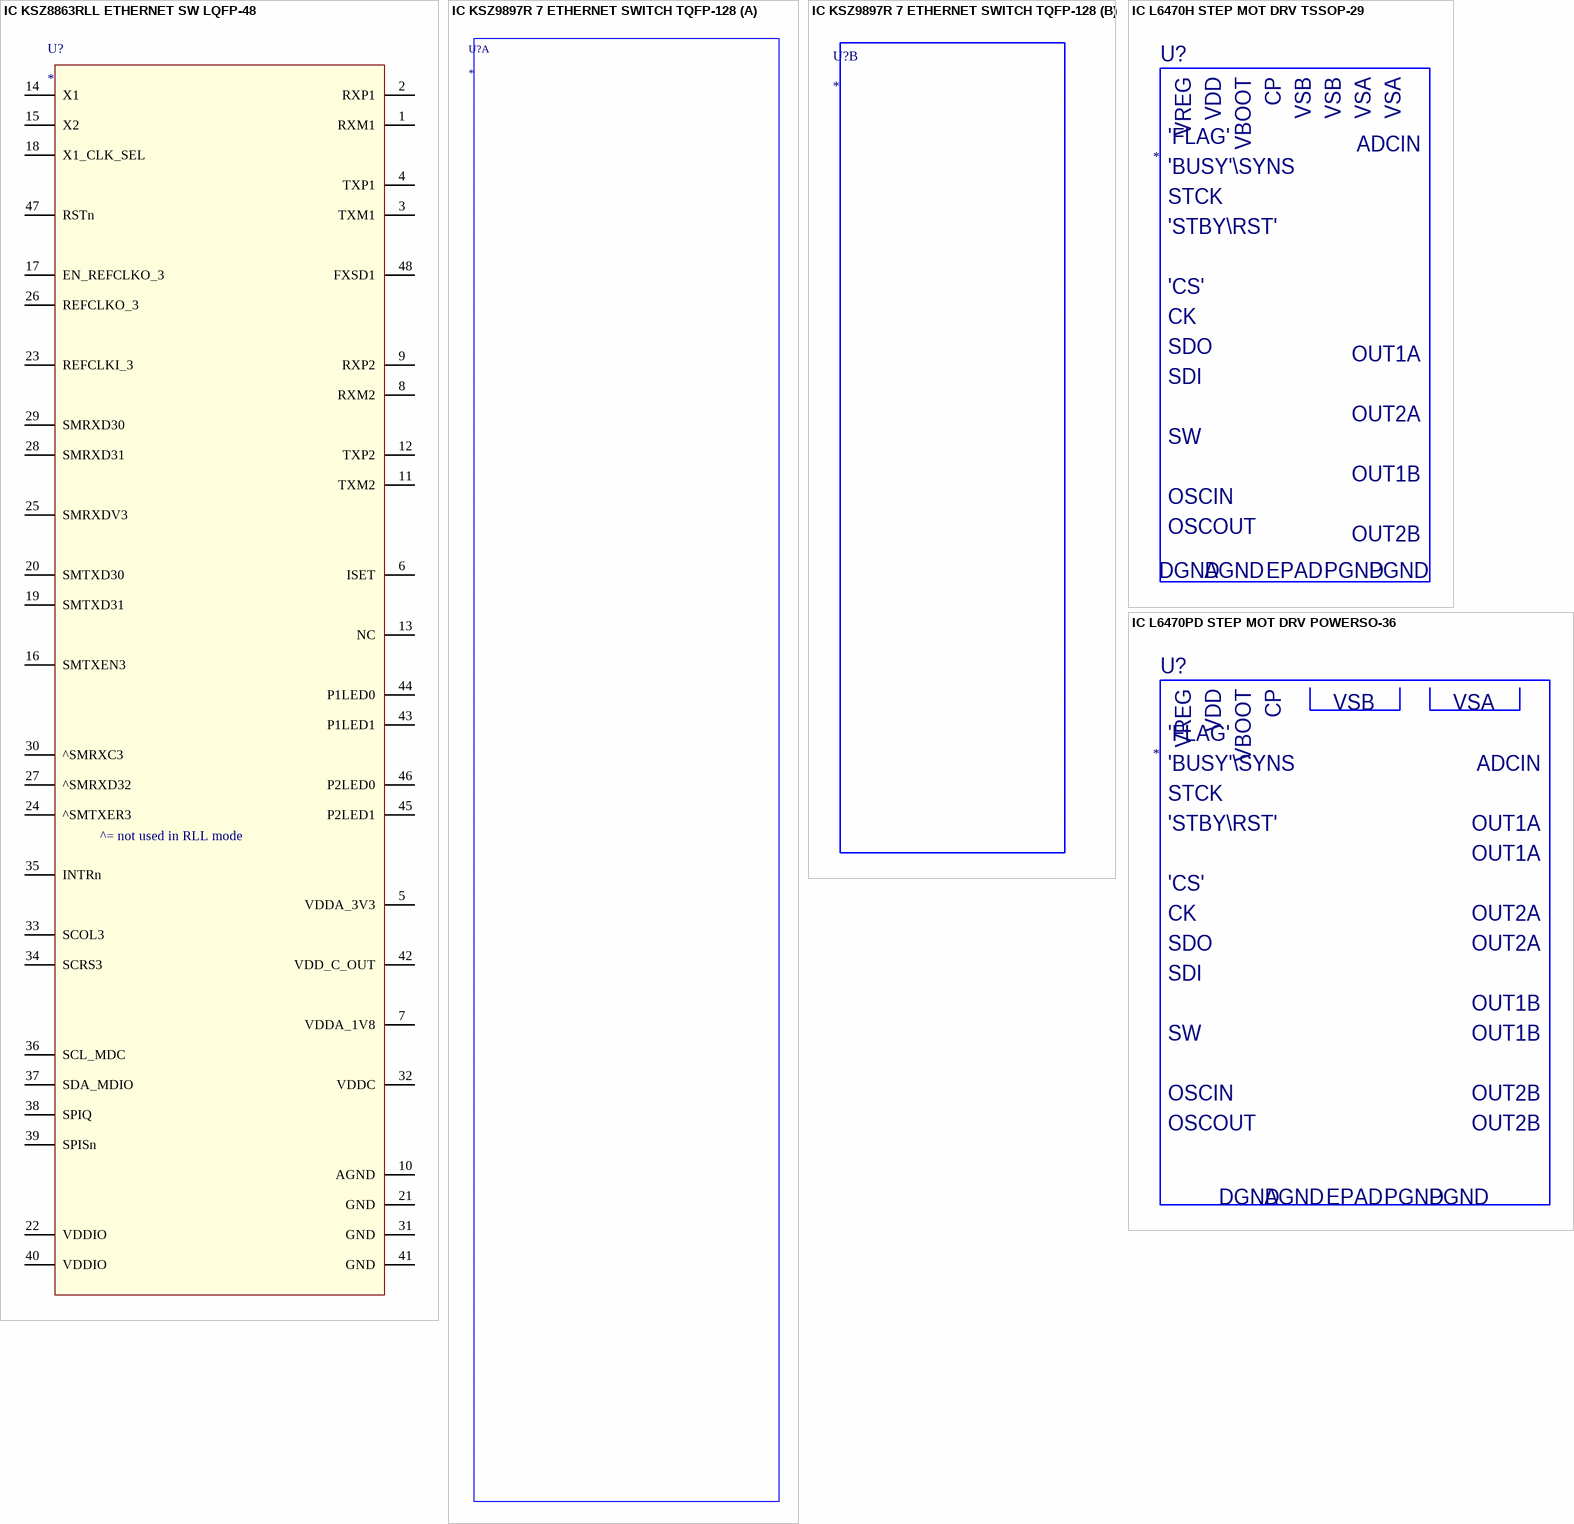
[diagram p6: symbols IC KSZ8863RLL ETHERNET SW LQFP-48 to IC L6470PD STEP MOT DRV POWERSO-36]

## IC KSZ8863RLL ETHERNET SW LQFP-48
designator U?
=Description
pins: 1 RXM1, 2 RXP1, 3 TXM1, 4 TXP1, 5 VDDA_3V3, 6 ISET, 7 VDDA_1V8, 8 RXM2, 9 RXP2, 10 AGND, 11 TXM2, 12 TXP2, 13 NC, 14 X1, 15 X2, 16 SMTXEN3, 17 EN_REFCLKO_3, 18 X1_CLK_SEL, 19 SMTXD31, 20 SMTXD30, 21 GND, 22 VDDIO, 23 REFCLKI_3, 24 ^SMTXER3, 25 SMRXDV3, 26 REFCLKO_3, 27 ^SMRXD32, 28 SMRXD31, 29 SMRXD30, 30 ^SMRXC3, 31 GND, 32 VDDC, 33 SCOL3, 34 SCRS3, 35 INTRn, 36 SCL_MDC, 37 SDA_MDIO, 38 SPIQ, 39 SPISn, 40 VDDIO, 41 GND, 42 VDD_C_OUT, 43 P1LED1, 44 P1LED0, 45 P2LED1, 46 P2LED0, 47 RSTn, 48 FXSD1
text: ^= not used in RLL mode

## IC KSZ9897R 7 ETHERNET SWITCH TQFP-128
designator U?
=Description
part A pins: 1 TXRX1P_A, 2 TXRX1M_A, 4 TXRX1P_B, 5 TXRX1M_B, 6 TXRX1P_C, 7 TXRX1M_C, 8 TXRX1P_D, 9 TXRX1M_D, 12 TXRX2P_A, 13 TXRX2M_A, 15 TXRX2P_B, 16 TXRX2M_B, 17 TXRX2P_C, 18 TXRX2M_C, 20 TXRX2P_D, 21 TXRX2M_D, 24 TXRX3P_A, 25 TXRX3M_A, 26 TXRX3P_B, 27 TXRX3M_B, 28 TXRX3P_C, 29 TXRX3M_C, 31 TXRX3P_D, 32 TXRX3M_D, 34 TXRX4P_A, 35 TXRX4M_A, 37 TXRX4P_B, 38 TXRX4M_B, 39 TXRX4P_C, 40 TXRX4M_C, 42 TXRX4P_D, 43 TXRX4M_D, 48 TX_CLK6/REFCLKI6, 49 TX_EN6/TX_CTL6, 50 TX_ER6, 51 COL6, 52 TXD6_3, 53 TXD6_2, 54 TXD6_1, 55 TXD6_0, 57 RX_CLK6/REFCLKO6, 58 RX_DV6/CRS_DV6/RX_CTL6, 59 RX_ER6, 60 CRS6, 62 RXD6_3, 63 RXD6_2, 64 RXD6_1, 65 RXD6_0, 66 TX_CLK7/REFCLKI7, 67 TX_EN7/TX_CTL7, 68 TX_ER7, 69 COL7, 70 TXD7_3, 71 TXD7_2, 72 TXD7_1, 73 TXD7_0, 75 RX_CLK7/REFCLKO7, 76 RX_DV7/CRS_DV7/RX_CTL7, 78 RX_ER7, 79 CRS7, 80 RXD7_3, 81 RXD7_2, 82 RXD7_1, 83 RXD7_0, 85 LED4_0, 86 LED4_1, 88 LED3_0, 89 LED3_1, 91 LED2_0, 92 LED2_1, 93 PME_N, 94 INTRP_N, 95 CLKO_25_125, 96 RESET_N, 97 SDO, 98 SDI/SDA/MDIO, 100 SCS_N, 101 SCL/MDC, 102 LED5_0, 103 LED5_1, 105 LED1_0, 106 LED1_1, 112 TXRX5P_A, 113 TXRX5M_A, 115 TXRX5P_B, 116 TXRX5M_B, 117 TXRX5P_C, 118 TXRX5M_C, 120 TXRX5P_D, 121 TXRX5M_D, 125 XO, 126 XI, 127 ISET
part B pins: 3 AVDDL, 10 AVDDH, 11 DVDDL, 14 AVDDL, 19 AVDDL, 22 AVDDH, 23 DVDDL, 30 AVDDL, 33 AVDDH, 36 AVDDL, 41 AVDDL, 44 AVDDH, 45 DVDDL, 46 GND, 47 GND, 56 DVDDL, 61 VDDIO, 74 DVDDL, 77 VDDIO, 84 GND, 87 DVDDL, 90 NC, 99 VDDIO, 104 DVDDL, 107 GND, 108 NC, 109 GND, 110 DVDDL, 111 AVDDH, 114 AVDDL, 119 AVDDL, 122 AVDDH, 123 GND, 124 AVDDL, 128 AVDDH, 129 PGND

## IC L6470H STEP MOT DRV TSSOP-29
designator U?
=Description
pins: 1, 2, 3, 4, 5, 6, 7, 8, 9, 10, 11, 12, 13, 14, 15, 16, 17, 18, 19, 20, 21, 22, 23, 24, 25, 26, 27, 28, 29
text: VREG; VDD; VBOOT; CP; VSB; VSA; 'FLAG'; ADCIN; 'BUSY'\SYNS; STCK; 'STBY\RST'; 'CS'; CK; SDO; OUT1A; SDI; OUT2A; SW; OUT1B; OSCIN; OSCOUT; OUT2B; DGND; AGND; EPAD; PGND

## IC L6470PD STEP MOT DRV POWERSO-36
designator U?
=Description
pins: 1, 2, 3, 4, 5, 6, 7, 8, 9, 10, 11, 12, 13, 14, 15, 16, 17, 18, 19, 20, 21, 22, 23, 24, 25, 26, 27, 28, 29, 30, 31, 32, 33, 34, 35, 36, 37
text: VREG; VDD; VBOOT; CP; VSB; VSA; 'FLAG'; 'BUSY'\SYNS; ADCIN; STCK; 'STBY\RST'; OUT1A; 'CS'; CK; OUT2A; SDO; SDI; OUT1B; SW; OSCIN; OUT2B; OSCOUT; DGND; AGND; EPAD; PGND

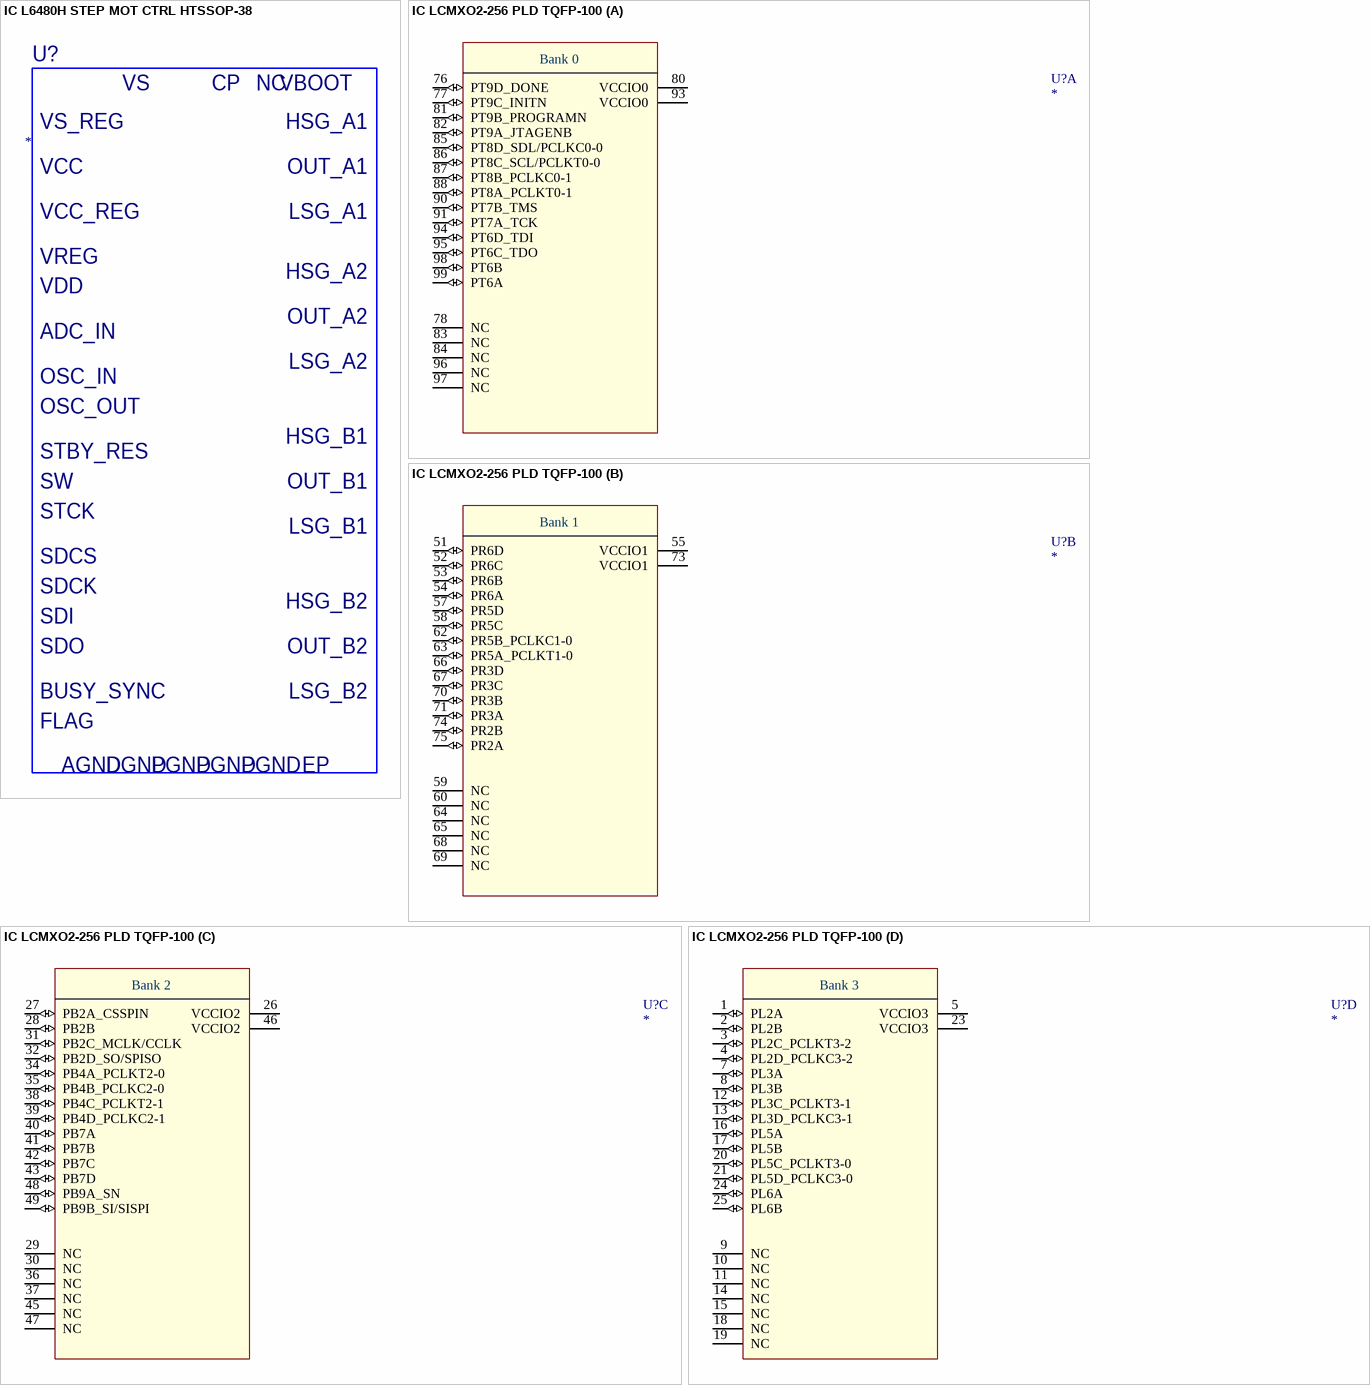
[diagram p7: symbols IC L6480H STEP MOT CTRL HTSSOP-38 to IC LCMXO2-256 PLD TQFP-100]

## IC L6480H STEP MOT CTRL HTSSOP-38
designator U?
=Description
pins: 1, 2, 3, 4, 5, 6, 7, 8, 9, 10, 11, 12, 13, 14, 15, 16, 17, 18, 19, 20, 21, 22, 23, 24, 25, 26, 27, 28, 29, 30, 31, 32, 33, 34, 35, 36, 37, 38, 39
text: VS; CP; NC; VBOOT; VS_REG; HSG_A1; VCC; OUT_A1; VCC_REG; LSG_A1; VREG; HSG_A2; VDD; OUT_A2; ADC_IN; LSG_A2; OSC_IN; OSC_OUT; HSG_B1; STBY_RES; SW; OUT_B1; STCK; LSG_B1; SDCS; SDCK; HSG_B2; SDI; SDO; OUT_B2; BUSY_SYNC; LSG_B2; FLAG; AGND; DGND; PGND; EP

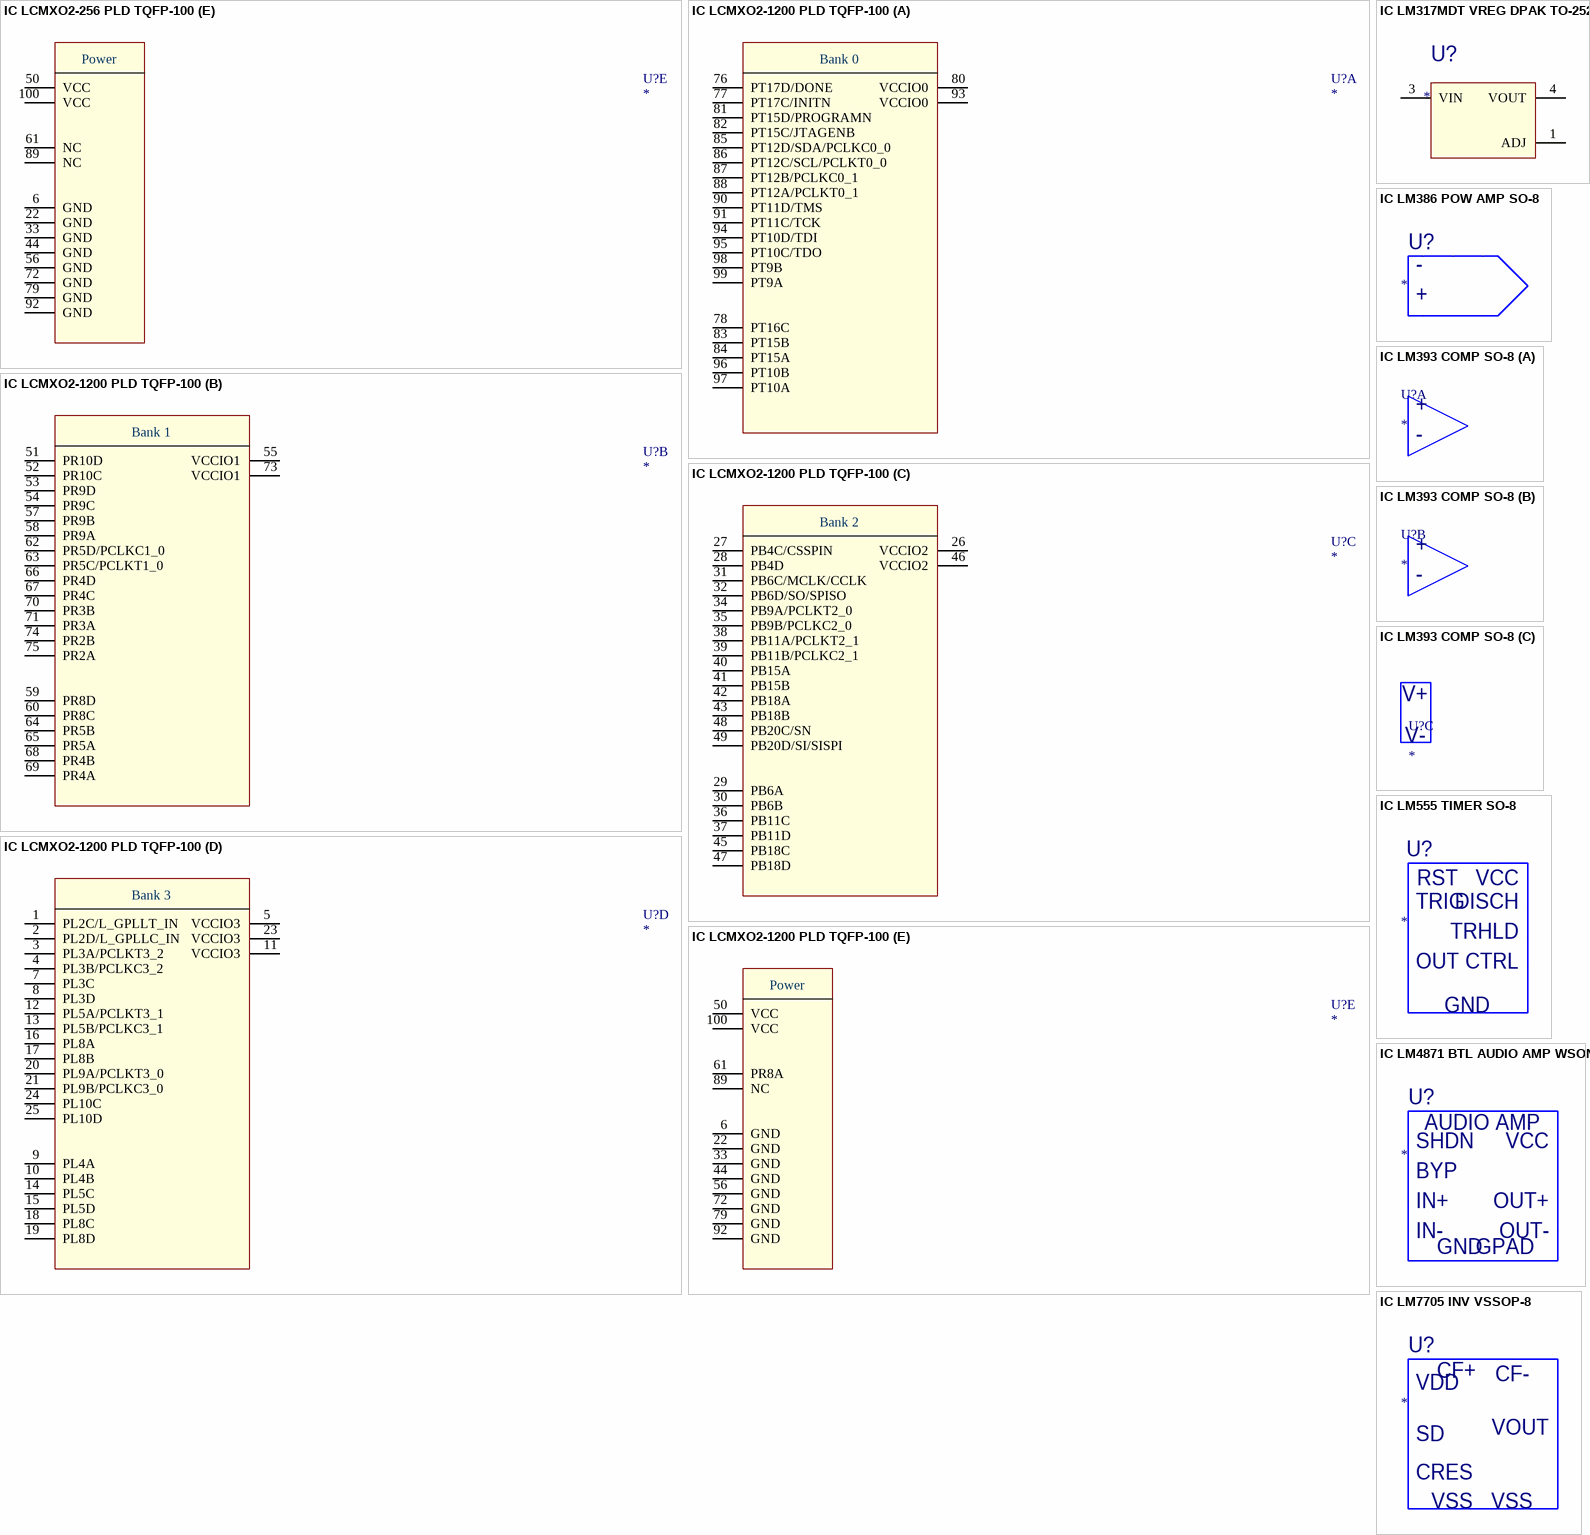
[diagram p8: symbols IC LCMXO2-256 PLD TQFP-100 to IC LM7705 INV VSSOP-8]

## IC LCMXO2-256 PLD TQFP-100
designator U?
=Description
part A pins: 76 PT9D_DONE (io), 77 PT9C_INITN (io), 78 NC, 80 VCCIO0 (power), 81 PT9B_PROGRAMN (io), 82 PT9A_JTAGENB (io), 83 NC, 84 NC, 85 PT8D_SDL/PCLKC0-0 (io), 86 PT8C_SCL/PCLKT0-0 (io), 87 PT8B_PCLKC0-1 (io), 88 PT8A_PCLKT0-1 (io), 90 PT7B_TMS (io), 91 PT7A_TCK (io), 93 VCCIO0 (power), 94 PT6D_TDI (io), 95 PT6C_TDO (io), 96 NC, 97 NC, 98 PT6B (io), 99 PT6A (io)
part B pins: 51 PR6D (io), 52 PR6C (io), 53 PR6B (io), 54 PR6A (io), 55 VCCIO1 (power), 57 PR5D (io), 58 PR5C (io), 59 NC, 60 NC, 62 PR5B_PCLKC1-0 (io), 63 PR5A_PCLKT1-0 (io), 64 NC, 65 NC, 66 PR3D (io), 67 PR3C (io), 68 NC, 69 NC, 70 PR3B (io), 71 PR3A (io), 73 VCCIO1 (power), 74 PR2B (io), 75 PR2A (io)
part C pins: 26 VCCIO2 (power), 27 PB2A_CSSPIN (io), 28 PB2B (io), 29 NC, 30 NC, 31 PB2C_MCLK/CCLK (io), 32 PB2D_SO/SPISO (io), 34 PB4A_PCLKT2-0 (io), 35 PB4B_PCLKC2-0 (io), 36 NC, 37 NC, 38 PB4C_PCLKT2-1 (io), 39 PB4D_PCLKC2-1 (io), 40 PB7A (io), 41 PB7B (io), 42 PB7C (io), 43 PB7D (io), 45 NC, 46 VCCIO2 (power), 47 NC, 48 PB9A_SN (io), 49 PB9B_SI/SISPI (io)
part D pins: 1 PL2A (io), 2 PL2B (io), 3 PL2C_PCLKT3-2 (io), 4 PL2D_PCLKC3-2 (io), 5 VCCIO3 (power), 7 PL3A (io), 8 PL3B (io), 9 NC, 10 NC, 11 NC, 12 PL3C_PCLKT3-1 (io), 13 PL3D_PCLKC3-1 (io), 14 NC, 15 NC, 16 PL5A (io), 17 PL5B (io), 18 NC, 19 NC, 20 PL5C_PCLKT3-0 (io), 21 PL5D_PCLKC3-0 (io), 23 VCCIO3 (power), 24 PL6A (io), 25 PL6B (io)
part E pins: 6 GND (power), 22 GND (power), 33 GND (power), 44 GND (power), 50 VCC (power), 56 GND (power), 61 NC, 72 GND (power), 79 GND (power), 89 NC, 92 GND (power), 100 VCC (power)
part A text: Bank 0
part B text: Bank 1
part C text: Bank 2
part D text: Bank 3
part E text: Power

## IC LCMXO2-1200 PLD TQFP-100
designator U?
=Description
part A pins: 76 PT17D/DONE, 77 PT17C/INITN, 78 PT16C, 80 VCCIO0 (power), 81 PT15D/PROGRAMN, 82 PT15C/JTAGENB, 83 PT15B, 84 PT15A, 85 PT12D/SDA/PCLKC0_0, 86 PT12C/SCL/PCLKT0_0, 87 PT12B/PCLKC0_1, 88 PT12A/PCLKT0_1, 90 PT11D/TMS, 91 PT11C/TCK, 93 VCCIO0 (power), 94 PT10D/TDI, 95 PT10C/TDO, 96 PT10B, 97 PT10A, 98 PT9B, 99 PT9A
part B pins: 51 PR10D, 52 PR10C, 53 PR9D, 54 PR9C, 55 VCCIO1 (power), 57 PR9B, 58 PR9A, 59 PR8D, 60 PR8C, 62 PR5D/PCLKC1_0, 63 PR5C/PCLKT1_0, 64 PR5B, 65 PR5A, 66 PR4D, 67 PR4C, 68 PR4B, 69 PR4A, 70 PR3B, 71 PR3A, 73 VCCIO1 (power), 74 PR2B, 75 PR2A
part C pins: 26 VCCIO2 (power), 27 PB4C/CSSPIN, 28 PB4D, 29 PB6A, 30 PB6B, 31 PB6C/MCLK/CCLK, 32 PB6D/SO/SPISO, 34 PB9A/PCLKT2_0, 35 PB9B/PCLKC2_0, 36 PB11C, 37 PB11D, 38 PB11A/PCLKT2_1, 39 PB11B/PCLKC2_1, 40 PB15A, 41 PB15B, 42 PB18A, 43 PB18B, 45 PB18C, 46 VCCIO2 (power), 47 PB18D, 48 PB20C/SN, 49 PB20D/SI/SISPI
part D pins: 1 PL2C/L_GPLLT_IN, 2 PL2D/L_GPLLC_IN, 3 PL3A/PCLKT3_2, 4 PL3B/PCLKC3_2, 5 VCCIO3 (power), 7 PL3C, 8 PL3D, 9 PL4A, 10 PL4B, 11 VCCIO3, 12 PL5A/PCLKT3_1, 13 PL5B/PCLKC3_1, 14 PL5C, 15 PL5D, 16 PL8A, 17 PL8B, 18 PL8C, 19 PL8D, 20 PL9A/PCLKT3_0, 21 PL9B/PCLKC3_0, 23 VCCIO3 (power), 24 PL10C, 25 PL10D
part E pins: 6 GND (power), 22 GND (power), 33 GND (power), 44 GND (power), 50 VCC (power), 56 GND (power), 61 PR8A, 72 GND (power), 79 GND (power), 89 NC, 92 GND (power), 100 VCC (power)
part A text: Bank 0
part B text: Bank 1
part C text: Bank 2
part D text: Bank 3
part E text: Power

## IC LM317MDT VREG DPAK TO-252
designator U?
=Description
pins: 1 ADJ, 3 VIN, 4 VOUT

## IC LM386 POW AMP SO-8
designator U?
=Description
pins: 1, 2, 3, 4, 5, 6, 7, 8
text: -; +

## IC LM393 COMP SO-8
designator U?
=Description
part A pins: 1, 2, 3
part B pins: 5, 6, 7
part C pins: 4, 8
part A text: +; -
part B text: +; -
part C text: V+; V-

## IC LM555 TIMER SO-8
designator U?
=Description
pins: 1, 2, 3, 4, 5, 6, 7, 8
text: RST; VCC; TRIG; DISCH; TRHLD; OUT; CTRL; GND

## IC LM4871 BTL AUDIO AMP WSON
designator U?
=Description
pins: 1, 2, 3, 4, 5, 6, 7, 8, 9
text: AUDIO AMP; SHDN; VCC; BYP; IN+; OUT+; IN-; OUT-; GND; GPAD

## IC LM7705 INV VSSOP-8
designator U?
=Description
pins: 1, 2, 3, 4, 5, 6, 7, 8
text: CF+; CF-; VDD; SD; VOUT; CRES; VSS

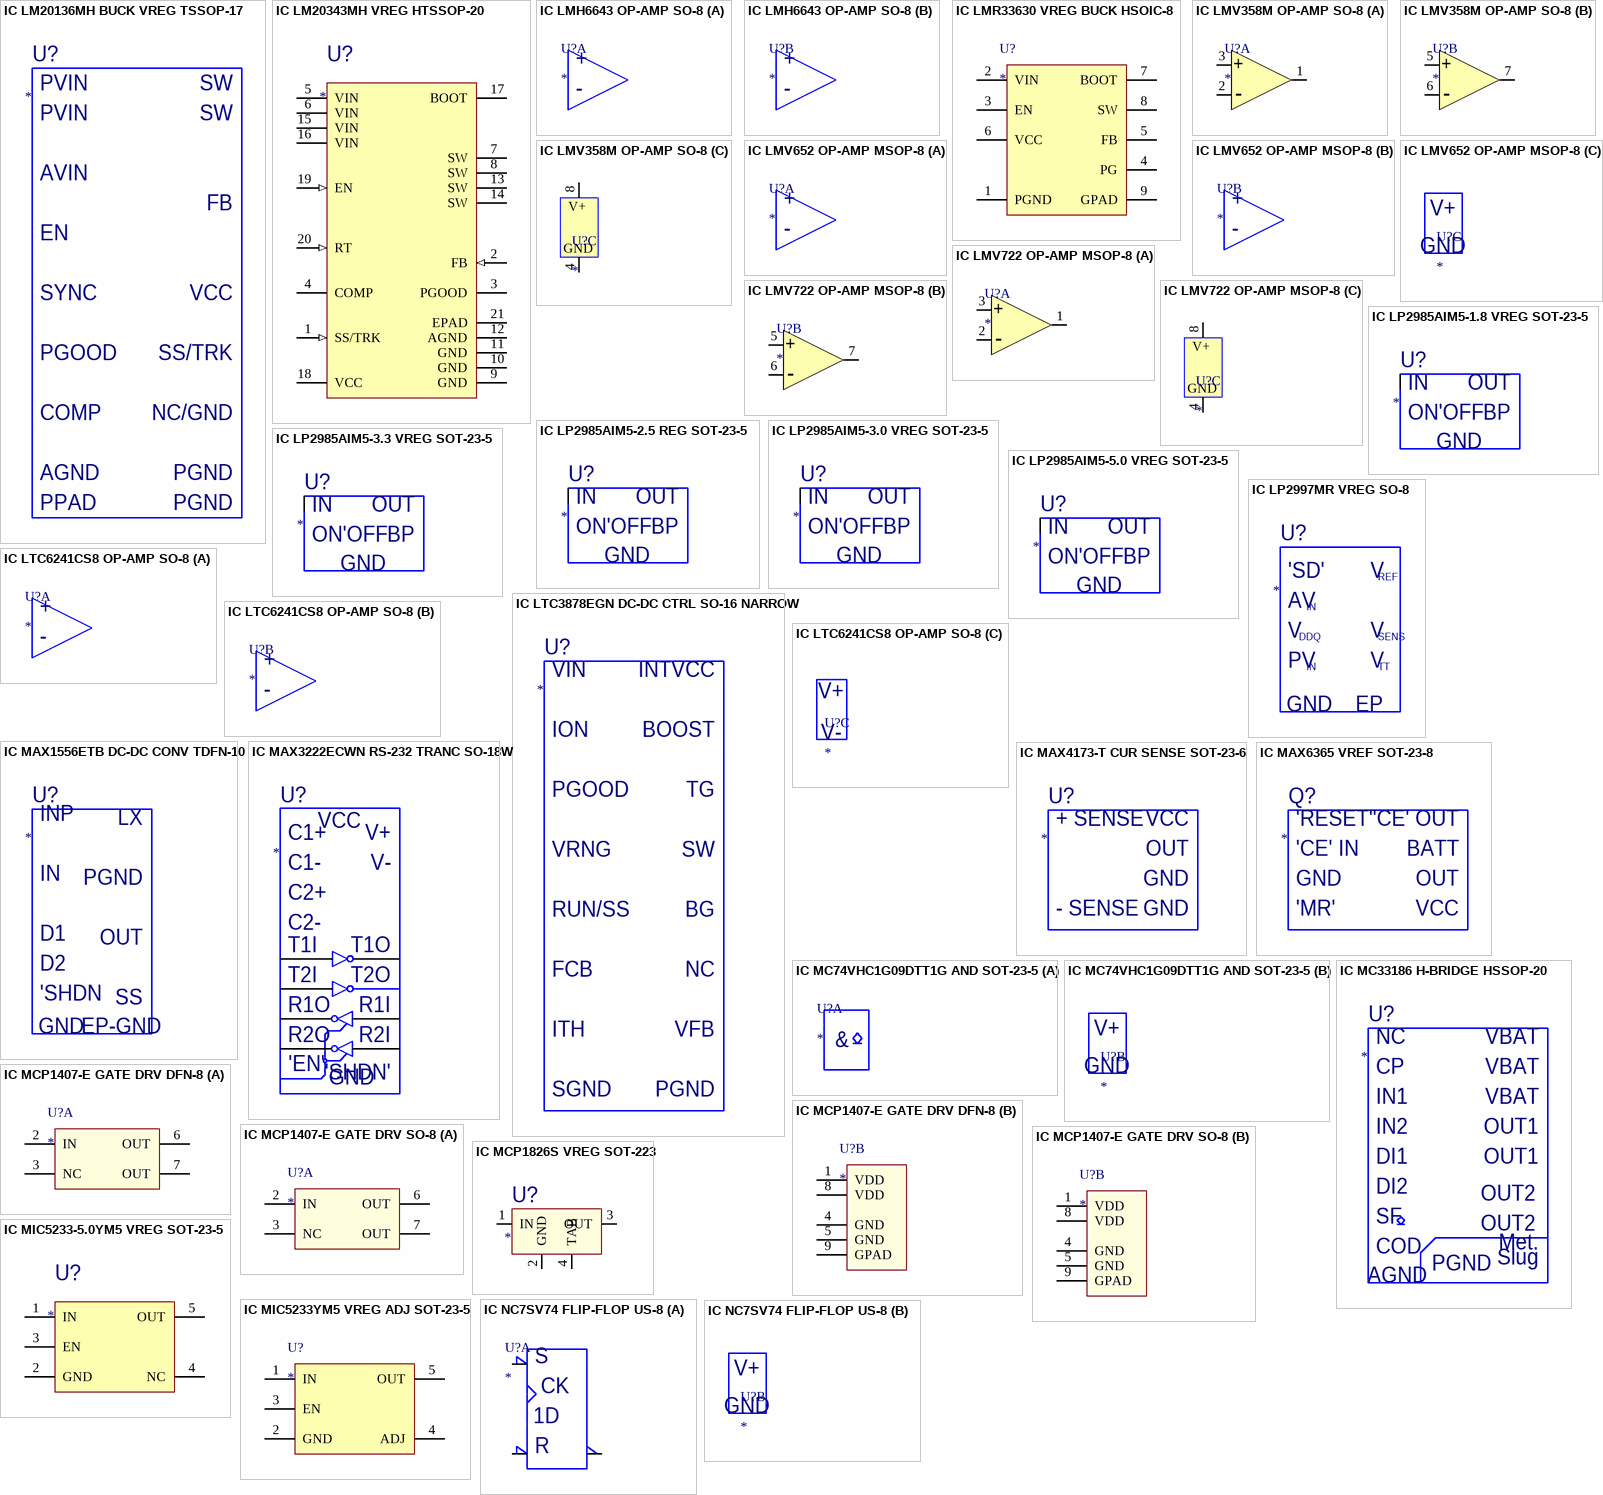
[diagram p9: symbols IC LM20136MH BUCK VREG TSSOP-17 to IC NC7SV74 FLIP-FLOP US-8]

## IC LM20136MH BUCK VREG TSSOP-17
designator U?
=Description
pins: 1, 2, 3, 4, 5, 6, 7, 8, 9, 10, 11, 12, 13, 14, 15, 16, 17
text: PVIN; SW; AVIN; FB; EN; SYNC; VCC; PGOOD; SS/TRK; COMP; NC/GND; AGND; PGND; PPAD

## IC LM20343MH VREG HTSSOP-20
designator U?
=Description
pins: 1 SS/TRK (in), 2 FB (in), 3 PGOOD (oc), 4 COMP, 5 VIN (power), 6 VIN (power), 7 SW (power), 8 SW (power), 9 GND (power), 10 GND (power), 11 GND (power), 12 AGND (power), 13 SW (power), 14 SW (power), 15 VIN (power), 16 VIN (power), 17 BOOT, 18 VCC (power), 19 EN (in), 20 RT (in), 21 EPAD (power)

## IC LMH6643 OP-AMP SO-8
designator U?
=Description
part A pins: 1, 2, 3, 4, 8
part B pins: 5, 6, 7
part A text: +; -
part B text: +; -

## IC LMR33630 VREG BUCK HSOIC-8
designator U?
=Description
pins: 1 PGND (power), 2 VIN (power), 3 EN, 4 PG (oc), 5 FB, 6 VCC, 7 BOOT, 8 SW (power), 9 GPAD (power)

## IC LMV358M OP-AMP SO-8
designator U?
=Description
part A pins: 1, 2, 3
part B pins: 5, 6, 7
part C pins: 4, 8
part A text: +; -
part B text: +; -
part C text: V+; GND

## IC LMV652 OP-AMP MSOP-8
designator U?
=Description
part A pins: 1, 2, 3
part B pins: 5, 6, 7
part C pins: 4, 8
part A text: +; -
part B text: +; -
part C text: V+; GND

## IC LMV722 OP-AMP MSOP-8
designator U?
=Description
part A pins: 1, 2, 3
part B pins: 5, 6, 7
part C pins: 4, 8
part A text: +; -
part B text: +; -
part C text: V+; GND

## IC LP2985AIM5-1.8 VREG SOT-23-5
designator U?
=Description
pins: 1, 2, 3, 4, 5
text: IN; OUT; ON'OFF'; BP; GND

## IC LP2985AIM5-2.5 REG SOT-23-5
designator U?
=Description
pins: 1, 2, 3, 4, 5
text: IN; OUT; ON'OFF'; BP; GND

## IC LP2985AIM5-3.0 VREG SOT-23-5
designator U?
=Description
pins: 1, 2, 3, 4, 5
text: IN; OUT; ON'OFF'; BP; GND

## IC LP2985AIM5-3.3 VREG SOT-23-5
designator U?
=Description
pins: 1, 2, 3, 4, 5
text: IN; OUT; ON'OFF'; BP; GND

## IC LP2985AIM5-5.0 VREG SOT-23-5
designator U?
=Description
pins: 1, 2, 3, 4, 5
text: IN; OUT; ON'OFF'; BP; GND

## IC LP2997MR VREG SO-8
designator U?
=Description
pins: 1, 2, 3, 4, 5, 6, 7, 8, 9
text: 'SD'; V; REF; AV; IN; DDQ; SENS; PV; TT; GND; EP

## IC LTC3878EGN DC-DC CTRL SO-16 NARROW
designator U?
=Description
pins: 1, 2, 3, 4, 5, 6, 7, 8, 9, 10, 11, 12, 13, 14, 15, 16
text: VIN; INTVCC; ION; BOOST; PGOOD; TG; VRNG; SW; RUN/SS; BG; FCB; NC; ITH; VFB; SGND; PGND

## IC LTC6241CS8 OP-AMP SO-8
designator U?
=Description
part A pins: 1, 2, 3
part B pins: 5, 6, 7
part C pins: 4, 8
part A text: +; -
part B text: +; -
part C text: V+; V-

## IC MAX1556ETB DC-DC CONV TDFN-10
designator U?
=Description
pins: 1, 2, 3, 4, 5, 6, 7, 8, 9, 10, 11
text: INP; LX; IN; PGND; D1; OUT; D2; 'SHDN; SS; GND; EP-GND

## IC MAX3222ECWN RS-232 TRANC SO-18W
designator U?
=Description
pins: 1, 2, 3, 4, 5, 6, 7, 8, 9, 10, 11, 12, 13, 14, 15, 16, 17, 18
text: VCC; C1+; V+; C1-; V-; C2+; C2-; T1I; T1O; T2I; T2O; R1O; R1I; R2O; R2I; 'EN'; 'SHDN'; GND

## IC MAX4173-T CUR SENSE SOT-23-6
designator U?
=Description
pins: 1, 2, 3, 4, 5, 6
text: + SENSE; VCC; OUT; GND; - SENSE

## IC MAX6365 VREF SOT-23-8
designator Q?
=Description
pins: 1, 2, 3, 4, 5, 6, 7, 8
text: 'RESET'; 'CE' OUT; 'CE' IN; BATT; GND; OUT; 'MR'; VCC

## IC MC74VHC1G09DTT1G AND SOT-23-5
designator U?
=Description
part A pins: 1, 2, 4
part B pins: 3, 5
part A text: &
part B text: V+; GND

## IC MC33186 H-BRIDGE HSSOP-20
designator U?
=Description
pins: 1, 2, 3, 4, 5, 6, 7, 8, 9, 10, 11, 12, 13, 14, 15, 16, 17, 18, 19, 20, 21
text: NC; VBAT; CP; IN1; IN2; OUT1; DI1; DI2; OUT2; SF; PGND; Met.; COD; Slug; AGND

## IC MCP1407-E GATE DRV DFN-8
designator U?
=Description
part A pins: 2 IN, 3 NC, 6 OUT, 7 OUT
part B pins: 1 VDD, 4 GND, 5 GND, 8 VDD, 9 GPAD

## IC MCP1407-E GATE DRV SO-8
designator U?
=Description
part A pins: 2 IN, 3 NC, 6 OUT, 7 OUT
part B pins: 1 VDD, 4 GND, 5 GND, 8 VDD, 9 GPAD

## IC MCP1826S VREG SOT-223
designator U?
=Description
pins: 1 IN, 2 GND, 3 OUT, 4 TAB

## IC MIC5233-5.0YM5 VREG SOT-23-5
designator U?
=Description
pins: 1 IN, 2 GND, 3 EN, 4 NC, 5 OUT

## IC MIC5233YM5 VREG ADJ SOT-23-5
designator U?
=Description
pins: 1 IN, 2 GND, 3 EN, 4 ADJ, 5 OUT

## IC NC7SV74 FLIP-FLOP US-8
designator U?
=Description
part A pins: 1, 2, 3, 5, 6, 7
part B pins: 4, 8
part A text: S; CK; 1D; R
part B text: V+; GND

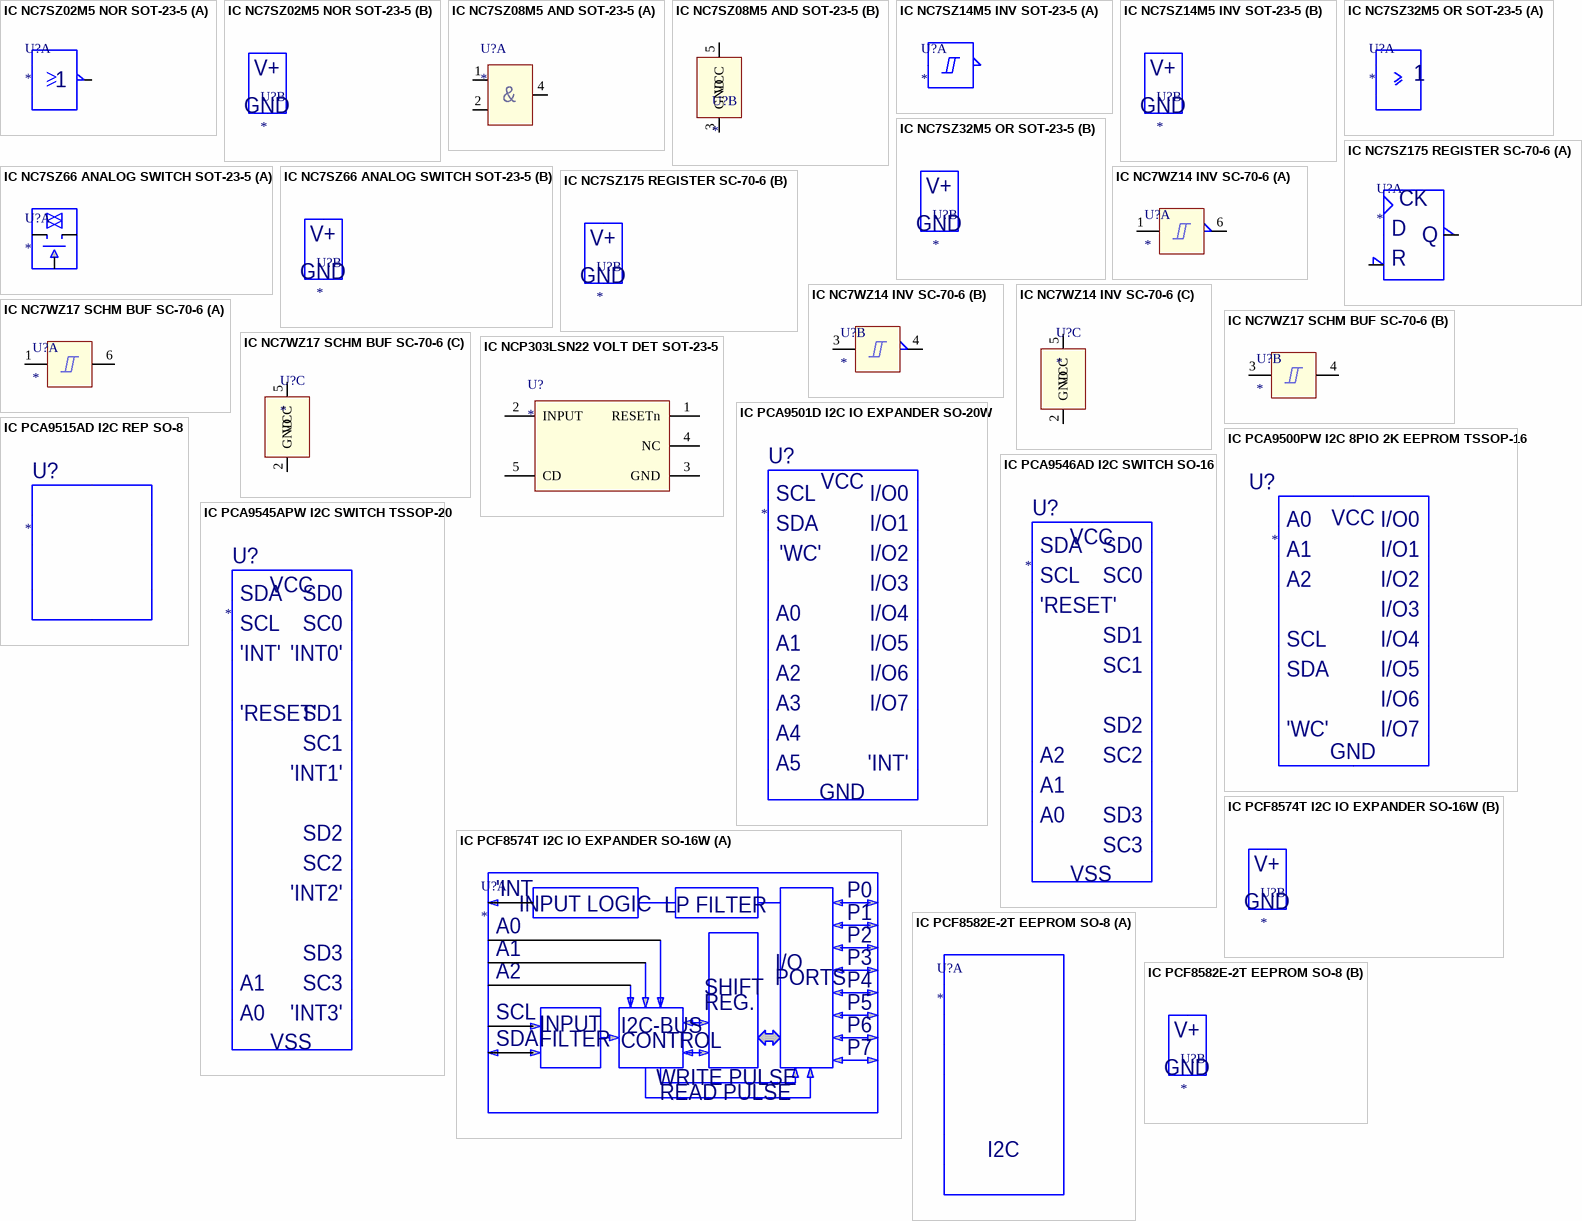
[diagram p10: symbols IC NC7SZ02M5 NOR SOT-23-5 to IC PCF8582E-2T EEPROM SO-8]

## IC NC7SZ02M5 NOR SOT-23-5
designator U?
=Description
part A pins: 1, 2, 4
part B pins: 3, 5
part B text: V+; GND

## IC NC7SZ08M5 AND SOT-23-5
designator U?
=Description
part A pins: 1, 2, 4
part B pins: 3 GND, 5 VCC
part A text: &

## IC NC7SZ14M5 INV SOT-23-5
designator U?
=Description
part A pins: 2, 4
part B pins: 3, 5
part B text: V+; GND

## IC NC7SZ32M5 OR SOT-23-5
designator U?
=Description
part A pins: 1, 2, 4
part B pins: 3, 5
part B text: V+; GND

## IC NC7SZ66 ANALOG SWITCH SOT-23-5
designator U?
=Description
part A pins: 1, 2, 4
part B pins: 3, 5
part B text: V+; GND

## IC NC7SZ175 REGISTER SC-70-6
designator U?
=Description
part A pins: 1, 3, 4, 6
part B pins: 2, 5
part A text: CK; Q; D; R
part B text: V+; GND

## IC NC7WZ14 INV SC-70-6
designator U?
=Description
part A pins: 1, 6
part B pins: 3, 4
part C pins: 2 GND, 5 VCC

## IC NC7WZ17 SCHM BUF SC-70-6
designator U?
=Description
part A pins: 1, 6
part B pins: 3, 4
part C pins: 2 GND, 5 VCC

## IC NCP303LSN22 VOLT DET SOT-23-5
designator U?
=Description
pins: 1 RESETn, 2 INPUT, 3 GND, 4 NC, 5 CD

## IC PCA9500PW I2C 8PIO 2K EEPROM TSSOP-16
designator U?
=Description
pins: 1, 2, 3, 4, 5, 6, 7, 8, 9, 10, 11, 12, 13, 14, 15, 16
text: VCC; A0; I/O0; A1; I/O1; A2; I/O2; I/O3; SCL; I/O4; SDA; I/O5; I/O6; 'WC'; I/O7; GND

## IC PCA9501D I2C IO EXPANDER SO-20W
designator U?
=Description
pins: 1, 2, 3, 4, 5, 6, 7, 8, 9, 10, 11, 12, 13, 14, 15, 16, 17, 18, 19, 20
text: VCC; SCL; I/O0; SDA; I/O1; 'WC'; I/O2; I/O3; A0; I/O4; A1; I/O5; A2; I/O6; A3; I/O7; A4; A5; 'INT'; GND

## IC PCA9515AD I2C REP SO-8
designator U?
=Description
pins: 1 NC, 2 SCL0, 3 SDA0, 4 GND, 5 EN, 6 SDA1, 7 SCL1, 8 VCC

## IC PCA9545APW I2C SWITCH TSSOP-20
designator U?
=Description
pins: 1, 2, 3, 4, 5, 6, 7, 8, 9, 10, 11, 12, 13, 14, 15, 16, 17, 18, 19, 20
text: VCC; SDA; SD0; SCL; SC0; 'INT'; 'INT0'; 'RESET'; SD1; SC1; 'INT1'; SD2; SC2; 'INT2'; SD3; A1; SC3; A0; 'INT3'; VSS

## IC PCA9546AD I2C SWITCH SO-16
designator U?
=Description
pins: 1, 2, 3, 4, 5, 6, 7, 8, 9, 10, 11, 12, 13, 14, 15, 16
text: VCC; SDA; SD0; SCL; SC0; 'RESET'; SD1; SC1; SD2; A2; SC2; A1; A0; SD3; SC3; VSS

## IC PCF8574T I2C IO EXPANDER SO-16W
designator U?
=Description
part A pins: 1, 2, 3, 4, 5, 6, 7, 9, 10, 11, 12, 13, 14, 15
part B pins: 8, 16
part A text: 'INT; INPUT LOGIC; LP FILTER; P0; P1; A0; P2; A1; P3; I/O; A2; PORTS; P4; SHIFT; REG.; P5; SCL; INPUT; I2C-BUS; P6; SDA; FILTER; CONTROL; P7; WRITE PULSE; READ PULSE
part B text: V+; GND

## IC PCF8582E-2T EEPROM SO-8
designator U?
=Description
part A pins: 1 A0, 2 A1, 3 A2, 5 SDA, 6 SCL, 7 TEST
part B pins: 4, 8
part A text: I2C
part B text: V+; GND

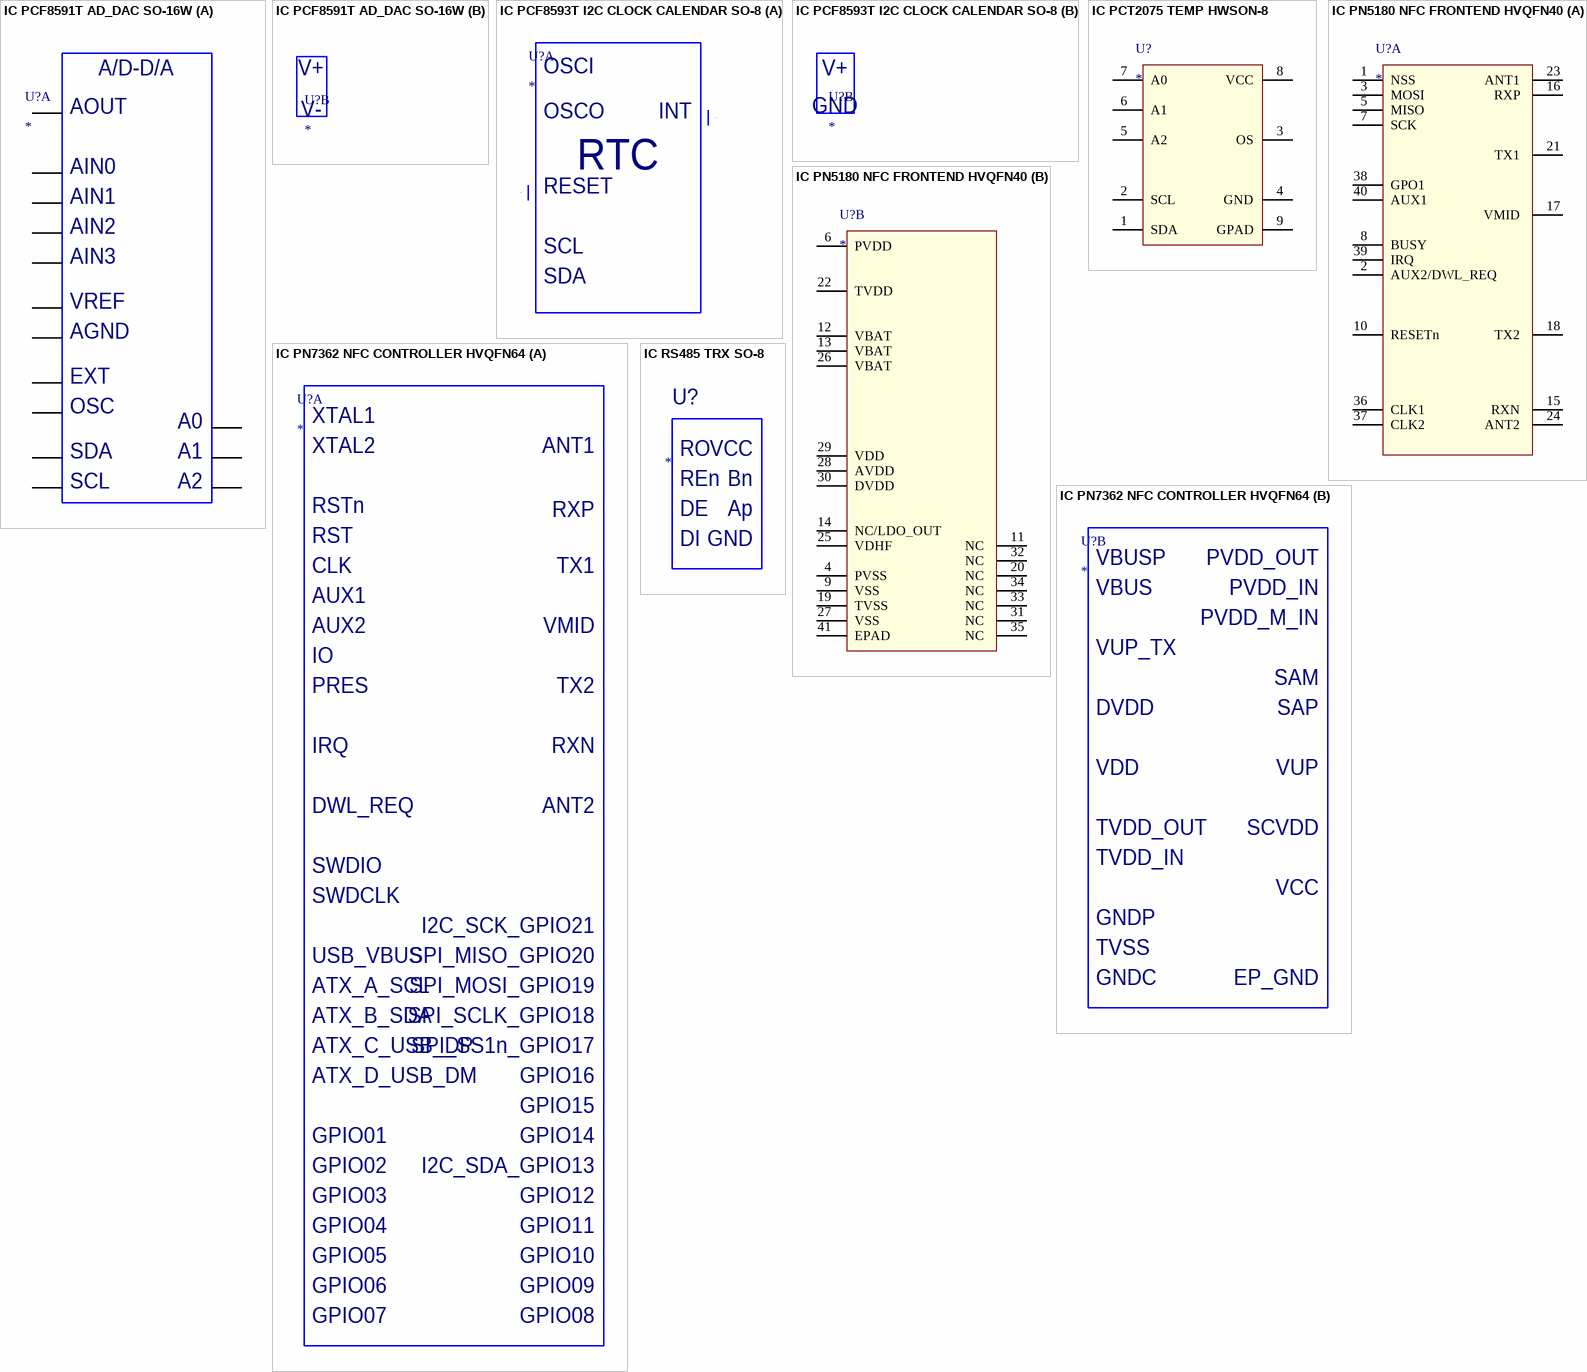
[diagram p11: symbols IC PCF8591T AD_DAC SO-16W to IC RS485 TRX SO-8]

## IC PCF8591T AD_DAC SO-16W
designator U?
=Description
part A pins: 1, 2, 3, 4, 5, 6, 7, 9, 10, 11, 12, 13, 14, 15
part B pins: 8, 16
part A text: A/D-D/A; AOUT; AIN0; AIN1; AIN2; AIN3; VREF; AGND; EXT; OSC; A0; SDA; A1; SCL; A2
part B text: V+; V-

## IC PCF8593T I2C CLOCK CALENDAR SO-8
designator U?
=Description
part A pins: 1, 2, 3, 5, 6, 7
part B pins: 4, 8
part A text: OSCI; OSCO; INT; RTC; RESET; SCL; SDA
part B text: V+; GND

## IC PCT2075 TEMP HWSON-8
designator U?
=Description
pins: 1 SDA, 2 SCL, 3 OS, 4 GND (power), 5 A2, 6 A1, 7 A0, 8 VCC (power), 9 GPAD (power)

## IC PN5180 NFC FRONTEND HVQFN40
designator U?
=Description
part A pins: 1 NSS , 2 AUX2/DWL_REQ, 3 MOSI , 5 MISO , 7 SCK , 8 BUSY , 10 RESETn, 15 RXN , 16 RXP , 17 VMID , 18 TX2 , 21 TX1 , 23 ANT1 , 24 ANT2 , 36 CLK1 , 37 CLK2 , 38 GPO1 , 39 IRQ , 40 AUX1 
part B pins: 4 PVSS , 6 PVDD , 9 VSS , 11 NC , 12 VBAT , 13 VBAT , 14 NC/LDO_OUT , 19 TVSS , 20 NC , 22 TVDD , 25 VDHF , 26 VBAT , 27 VSS , 28 AVDD , 29 VDD , 30 DVDD , 31 NC , 32 NC , 33 NC , 34 NC , 35 NC , 41 EPAD

## IC PN7362 NFC CONTROLLER HVQFN64
designator U?
=Description
part A pins: 1, 2, 3, 4, 5, 6, 7, 8, 9, 12, 13, 14, 15, 16, 17, 18, 19, 20, 21, 22, 23, 24, 25, 26, 27, 28, 29, 30, 31, 33, 35, 36, 40, 41, 42, 52, 53, 55, 56, 57, 58, 60, 61, 62, 63, 64
part B pins: 10, 11, 32, 34, 37, 38, 39, 43, 44, 45, 46, 47, 48, 49, 50, 51, 54, 59, 65
part A text: XTAL1; XTAL2; ANT1; RSTn; RXP; RST; CLK; TX1; AUX1; AUX2; VMID; IO; PRES; TX2; IRQ; RXN; DWL_REQ; ANT2; SWDIO; SWDCLK; I2C_SCK_GPIO21; USB_VBUS; SPI_MISO_GPIO20; ATX_A_SCL; SPI_MOSI_GPIO19; ATX_B_SDA; SPI_SCLK_GPIO18; ATX_C_USB_DP; SPI_SS1n_GPIO17; ATX_D_USB_DM; GPIO16; GPIO15; GPIO01; GPIO14; GPIO02; I2C_SDA_GPIO13; GPIO03; GPIO12; GPIO04; GPIO11; GPIO05; GPIO10; GPIO06; GPIO09; GPIO07; GPIO08
part B text: VBUSP; PVDD_OUT; VBUS; PVDD_IN; PVDD_M_IN; VUP_TX; SAM; DVDD; SAP; VDD; VUP; TVDD_OUT; SCVDD; TVDD_IN; VCC; GNDP; TVSS; GNDC; EP_GND

## IC RS485 TRX SO-8
designator U?
=Description
pins: 1, 2, 3, 4, 5, 6, 7, 8
text: RO; VCC; REn; Bn; DE; Ap; DI; GND

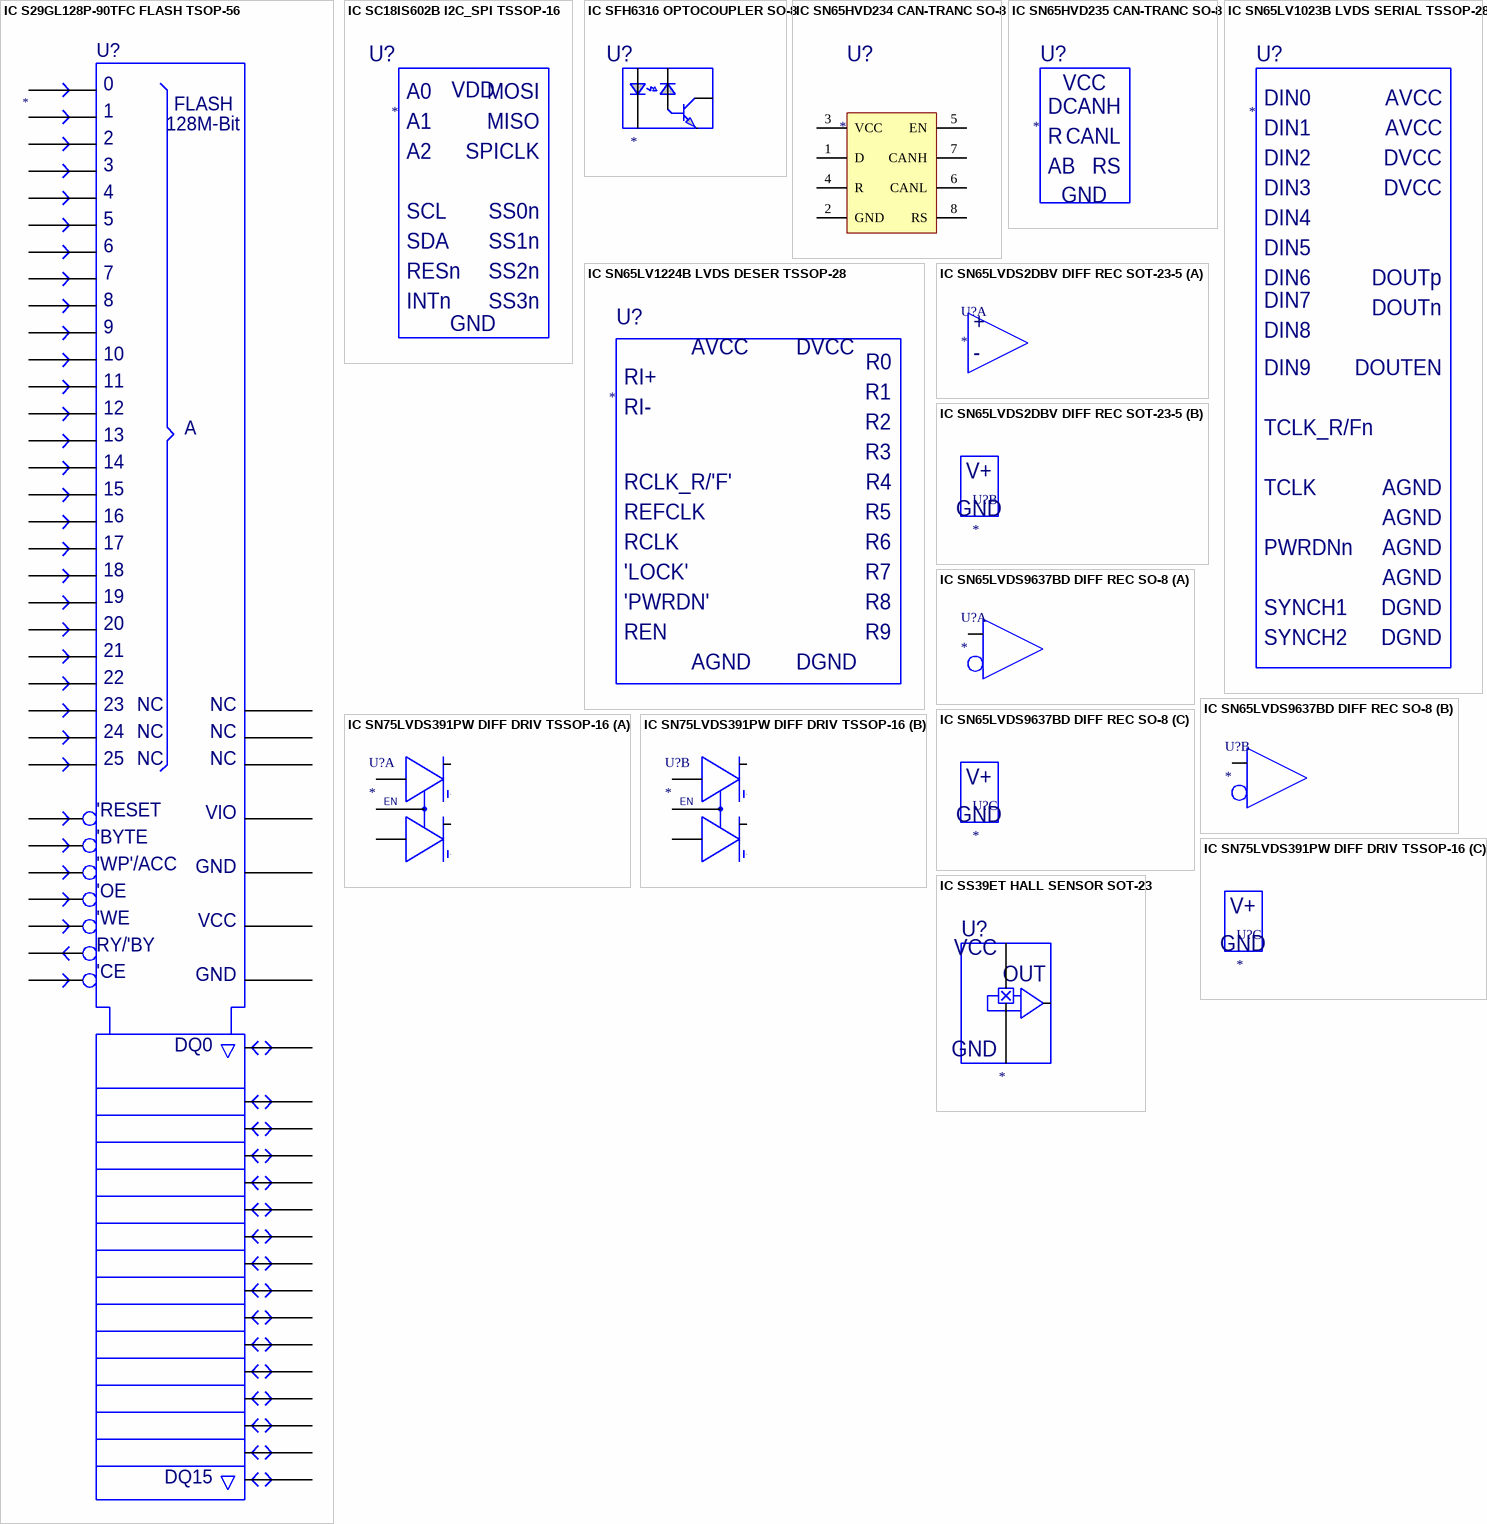
[diagram p12: symbols IC S29GL128P-90TFC FLASH TSOP-56 to IC SS39ET HALL SENSOR SOT-23]

## IC S29GL128P-90TFC FLASH TSOP-56
designator U?
=Description
pins: 1, 2, 3, 4, 5, 6, 7, 8, 9, 10, 11, 12, 13, 14, 15, 16, 17, 18, 19, 20, 21, 22, 23, 24, 25, 26, 27, 28, 29, 30, 31, 32, 33, 34, 35, 36, 37, 38, 39, 40, 41, 42, 43, 44, 45, 46, 47, 48, 49, 50, 51, 52, 53, 54, 55, 56
text: 0; FLASH; 128M-Bit; A; NC; 'RESET; VIO; 'BYTE; 'WP'/ACC; GND; 'OE; 'WE; VCC; RY/'BY; 'CE; DQ0; DQ15

## IC SC18IS602B I2C_SPI TSSOP-16
designator U?
=Description
pins: 1, 2, 3, 4, 5, 6, 7, 8, 9, 10, 11, 12, 13, 14, 15, 16
text: VDD; A0; MOSI; A1; MISO; A2; SPICLK; SCL; SS0n; SDA; SS1n; RESn; SS2n; INTn; SS3n; GND

## IC SFH6316 OPTOCOUPLER SO-8
designator U?
=Description
pins: 2, 3, 5, 6, 8

## IC SN65HVD234 CAN-TRANC SO-8
designator U?
=Description
pins: 1 D "CAN transmit data input (LOW for dominant and HIGH for recessive bus states), also called TXD, driver input", 2 GND (power) "Ground connection", 3 VCC (power) "Transceiver 3.3V supply voltage", 4 R "CAN receive data output (LOW for dominant and HIGH for recessive bus states), also called RXD, receiver output", 5 EN "SN65HVD230 and SN65HVD231: VCC / 2 reference output pin", 6 CANL "Low level CAN bus line", 7 CANH "High level CAN bus line", 8 RS "SN65HVD230 and SN65HVD231: Mode select pin: strong pull down to GND = high speed mode, strong pull up to VCC = low power mode, 10kohm to 100kohm pull down to GND = slope control mode"

## IC SN65HVD235 CAN-TRANC SO-8
designator U?
=Description
pins: 1, 2, 3, 4, 5, 6, 7, 8
text: VCC; D; CANH; R; CANL; AB; RS; GND

## IC SN65LV1023B LVDS SERIAL TSSOP-28
designator U?
=Description
pins: 1, 2, 3, 4, 5, 6, 7, 8, 9, 10, 11, 12, 13, 14, 15, 16, 17, 18, 19, 20, 21, 22, 23, 24, 25, 26, 27, 28
text: DIN0; AVCC; DIN1; DIN2; DVCC; DIN3; DIN4; DIN5; DIN6; DOUTp; DIN7; DOUTn; DIN8; DIN9; DOUTEN; TCLK_R/Fn; TCLK; AGND; PWRDNn; SYNCH1; DGND; SYNCH2

## IC SN65LV1224B LVDS DESER TSSOP-28
designator U?
=Description
pins: 1, 2, 3, 4, 5, 6, 7, 8, 9, 10, 11, 12, 13, 14, 15, 16, 17, 18, 19, 20, 21, 22, 23, 24, 25, 26, 27, 28
text: AVCC; DVCC; R0; RI+; R1; RI-; R2; R3; RCLK_R/'F'; R4; REFCLK; R5; RCLK; R6; 'LOCK'; R7; 'PWRDN'; R8; REN; R9; AGND; DGND

## IC SN65LVDS2DBV DIFF REC SOT-23-5
designator U?
=Description
part A pins: 3, 4, 5
part B pins: 1, 2
part A text: +; -
part B text: V+; GND

## IC SN65LVDS9637BD DIFF REC SO-8
designator U?
=Description
part A pins: 2, 7, 8
part B pins: 3, 5, 6
part C pins: 1, 4
part C text: V+; GND

## IC SN75LVDS391PW DIFF DRIV TSSOP-16
designator U?
=Description
part A pins: 1, 2, 3, 13, 14, 15, 16
part B pins: 6, 7, 8, 9, 10, 11, 12
part C pins: 4, 5
part A text: EN
part B text: EN
part C text: V+; GND

## IC SS39ET HALL SENSOR SOT-23
designator U?
=Description
pins: 1, 2, 3
text: VCC; OUT; GND

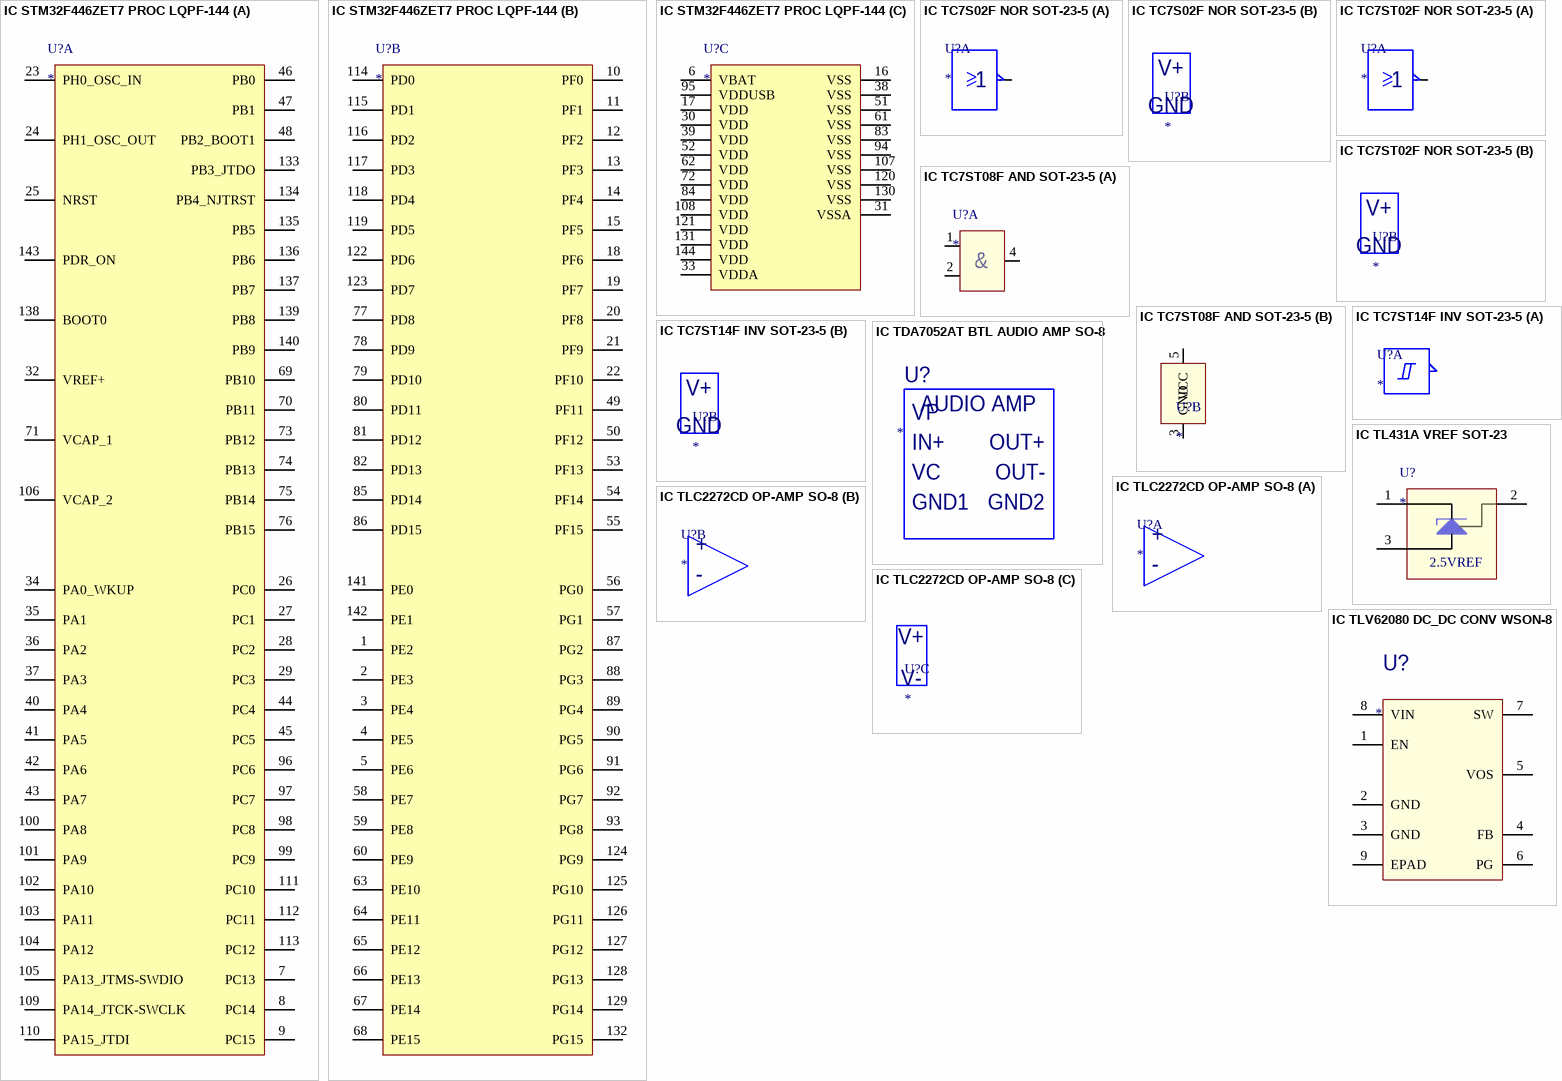
[diagram p13: symbols IC STM32F446ZET7 PROC LQPF-144 to IC TLV62080 DC_DC CONV WSON-8]

## IC STM32F446ZET7 PROC LQPF-144
designator U?
=Description
part A pins: 7 PC13 "PC13/EVENTOUT/TAMP_1/WKUP1", 8 PC14 "PC14-OSC32_IN(PC14)/EVENTOUT/OSC32_IN", 9 PC15 "PC15-OSC32_OUT(PC15)/EVENTOUT/OSC32_OUT", 23 PH0_OSC_IN "PH0-OSC_IN(PH0)/EVENTOUT/OSC_IN", 24 PH1_OSC_OUT "PH1-OSC_OUT(PH1)/EVENTOUT/OSC_OUT", 25 NRST, 26 PC0 "PC0/SAI1_MCLK_B,OTG_HS_ULPI_STP,FMC_SDNWE,EVENTOUT/ADC123_IN10", 27 PC1 "PC1/SPI3_MOSI/I2S3_SD,SAI1_SD_A,SPI2_MOSI/I2S2_SD,EVENTOUT/ADC123_IN11", 28 PC2 "PC2/SPI2_MISO,OTG_HS_ULPI_DIR,FMC_SDNE0,EVENTOUT/ADC123_IN12", 29 PC3 "PC3/SPI2_MOSI/I2S2_SD,OTG_HS_ULPI_NXT,FMC_SDCKE0,EVENTOUT/ADC123_IN13", 32 VREF+ (power), 34 PA0_WKUP "PA0-WKUP(PA0)/TIM2_CH1/TIM2_ETR,TIM5_CH1,TIM8_ETR,USART2_CTS,UART4_TX,EVENTOUT/ADC123_IN0,WKUP0/TAMP_2", 35 PA1 "PA1/TIM2_CH2,TIM5_CH2,USART2_RTS,UART4_RX,QUADSPI_BK1_IO3,SAI2_MCLK_B,EVENTOUT/ADC123_IN1", 36 PA2 "PA2/TIM2_CH3,TIM5_CH3,TIM9_CH1,USART2_TX,SAI2_SCK_B,EVENTOUT/ADC123_IN2", 37 PA3 "PA3/TIM2_CH4,TIM5_CH4,TIM9_CH2,SAI1_FS_A,USART2_RX,OTG_HS_ULPI_D0,EVENTOUT/ADC123_IN3", 40 PA4 "PA4/SPI1_NSS/I2S1_WS,SPI3_NSS/I2S3_WS,USART2_CK,OTG_HS_SOF,DCMI_HSYNC,EVENTOUT/ADC12_IN4,DAC_OUT1", 41 PA5 "PA5/TIM2_CH1/TIM2_ETR,TIM8_CH1N,SPI1_SCK/I2S1_CK,OTG_HS_ULPI_CK,EVENTOUT/ADC12_IN5,DAC_OUT2", 42 PA6 "PA6/TIM1_BKIN,TIM3_CH1,TIM8_BKIN,SPI1_MISO,I2S2_MCK,TIM13_CH1,DCMI_PIXCLK,EVENTOUT/ADC12_IN6", 43 PA7 "PA7/TIM1_CH1N,TIM3_CH2,TIM8_CH1N,SPI1_MOSI/I2S1_SD,TIM14_CH1,FMC_SDNWE,EVENTOUT/ADC12_IN7", 44 PC4 "PC4/I2S1_MCK,SPDIFRX_IN2,FMC_SDNE0,EVENTOUT/ADC12_IN14", 45 PC5 "PC5/USART3_RX,SPDIFRX_IN3,FMC_SDCKE0,EVENTOUT/ADC12_IN15", 46 PB0 "PB0/TIM1_CH2N,TIM3_CH3,TIM8_CH2N,SPI3_MOSI/I2S3_SD,UART4_CTS,OTG_HS_ULPI_D1,SDIO_D1,EVENTOUT/ADC12_IN8", 47 PB1 "PB1/TIM1_CH3N,TIM3_CH4,TIM8_CH3N,OTG_HS_ULPI_D2,SDIO_D2,EVENTOUT/ADC12_IN9", 48 PB2_BOOT1 "PB2-BOOT1(PB2)/TIM2_CH4,SAI1_SD_A,SPI3_MOSI/I2S3_SD,QUADSPI_CLK,OTG_HS_ULPI_D4,SDIO_CK,EVENTOUT", 69 PB10 "PB10/TIM2_CH3,I2C2_SCL,SPI2_SCK/I2S2_CK,SAI1_SCK_A,USART3_TX,OTG_HS_ULPI_D3,EVENTOUT", 70 PB11 "PB11/TIM2_CH4,I2C2_SDA,USART3_RX,SAI2_SD_A,EVENTOUT", 71 VCAP_1, 73 PB12 "PB12/TIM1_BKIN,I2C2_SMBA,SPI2_NSS/I2S2_WS,SAI1_SCK_B,USART3_CK,CAN2_RX,OTG_HS_ULPI_D5,OTG_HS_ID,EVENTOUT", 74 PB13 "PB13/TIM1_CH1N,SPI2_SCK/I2S2_CK,USART3_CTS,CAN2_TX,OTG_HS_ULPI_D6,EVENTOUT/OTG_HS_VBUS", 75 PB14 "PB14/TIM1_CH2N,TIM8_CH2N,SPI2_MISO,USART3_RTS,TIM12_CH1,OTG_HS_DM,EVENTOUT", 76 PB15 "PB15/RTC_REFIN,TIM1_CH3N,TIM8_CH3N,SPI2_MOSI/I2S2_SD,TIM12_CH2,OTG_HS_DP,EVENTOUT", 96 PC6 "PC6/TIM3_CH1,TIM8_CH1,FMPI2C1_SCL,I2S2_MCK,USART6_TX,SDIO_D6,DCMI_D0,EVENTOUT", 97 PC7 "PC7/TIM3_CH2,TIM8_CH2,FMPI2C1_SDA,SPI2_SCK/I2S2_CK,I2S3_MCK,SPDIFRX_IN1,USART6_RX,SDIO_D7,DCMI_D1,EVENTOUT", 98 PC8 "PC8/TRACED0,TIM3_CH3,TIM8_CH3,UART5_RTS,USART6_CK,SDIO_D0,DCMI_D2,EVENTOUT", 99 PC9 "PC9/MCO2,TIM3_CH4,TIM8_CH4,I2C3_SDA,I2S_CKIN,UART5_CTS,QUADSPI_BK1_IO0,SDIO_D1,DCMI_D3,EVENTOUT", 100 PA8 "PA8/MCO1,TIM1_CH1,I2C3_SCL,USART1_CK,OTG_FS_SOF,EVENTOUT", 101 PA9 "PA9/TIM1_CH2,I2C3_SMBA,SPI2_SCK/I2S2_CK,SAI1_SD_B,USART1_TX,DCMI_D0,EVENTOUT/OTG_FS_VBUS", 102 PA10 "PA10/TIM1_CH3,USART1_RX,OTG_FS_ID,DCMI_D1,EVENTOUT", 103 PA11 "PA11/TIM1_CH4,USART1_CTS,CAN1_RX,OTG_FS_DM,EVENTOUT", 104 PA12 "PA12/TIM1_ETR,USART1_RTS,SAI2_FS_B,CAN1_TX,OTG_FS_DP,EVENTOUT", 105 PA13_JTMS-SWDIO "PA13(JTMS-SWDIO)/JTMS-SWDIO,EVENTOUT", 106 VCAP_2, 109 PA14_JTCK-SWCLK "PA14(JTCK-SWCLK)/JTCK-SWCLK,EVENTOUT", 110 PA15_JTDI "PA15(JTDI)/JTDI,TIM2_CH1/TIM2_ETR,HDMI_CEC,SPI1_NSS/I2S1_WS,SPI3_NSS/I2S3_WS,UART4_RTS,EVENTOUT", 111 PC10 "PC10/SPI3_SCK/I2S3_CK,USART3_TX,UART4_TX,QUADSPI_BK1_IO1,SDIO_D2,DCMI_D8,EVENTOUT", 112 PC11 "PC11/SPI3_MISO,USART3_RX,UART4_RX,QUADSPI_BK2_NCS,SDIO_D3,DCMI_D4,EVENTOUT", 113 PC12 "PC12/I2C2_SDA,SPI3_MOSI/I2S3_SD,USART3_CK,UART5_TX,SDIO_CK,DCMI_D9,EVENTOUT", 133 PB3_JTDO "PB3(JTDO/TRACESWO)/JTDO/TRACESWO,TIM2_CH2,I2C2_SDA,SPI1_SCK/I2S1_CK,SPI3_SCK/I2S3_CK,EVENTOUT", 134 PB4_NJTRST "PB4(NJTRST)/NJTRST,TIM3_CH1,I2C3_SDA,SPI1_MISO,SPI3_MISO,SPI2_NSS/I2S2_WS,EVENTOUT", 135 PB5 "PB5/TIM3_CH2,I2C1_SMBA,SPI1_MOSI/I2S1_SD,SPI3_MOSI/I2S3_SD,CAN2_RX,OTG_HS_ULPI_D7,FMC_SDCKE1,DCMI_D10,EVENTOUT", 136 PB6 "PB6/TIM4_CH1,HDMI_CEC,I2C1_SCL,USART1_TX,CAN2_TX,QUADSPI_BK1_NCS,FMC_SDNE1,DCMI_D5,EVENTOUT", 137 PB7 "PB7/TIM4_CH2,I2C1_SDA,USART1_RX,SPDIFRX_IN0,FMC_NL,DCMI_VSYNC,EVENTOUT", 138 BOOT0 "BOOT0/VPP", 139 PB8 "PB8/TIM2_CH1/TIM2_ETR,TIM4_CH3,TIM10_CH1,I2C1_SCL,CAN1_RX,SDIO_D4,DCMI_D6,EVENTOUT", 140 PB9 "PB9/TIM2_CH2,TIM4_CH4,TIM11_CH1,I2C1_SDA,SPI2_NSS/I2S2_WS,SAI1_FS_B,CAN1_TX,SDIO_D5,DCMI_D7,EVENTOUT", 143 PDR_ON
part B pins: 1 PE2 "PE2/TRACECLK,SPI4_SCK,SAI1_MCLK_A,QUADSPI_BK1_IO2,FMC_A23,EVENTOUT", 2 PE3 "PE3/TRACED0,SAI1_SD_B,FMC_A19,EVENTOUT", 3 PE4 "PE4/TRACED1,SPI4_NSS,SAI1_FS_A,FMC_A20,DCMI_D4,EVENTOUT", 4 PE5 "PE5/TRACED2,TIM9_CH1,SPI4_MISO,SAI1_SCK_A,FMC_A21,DCMI_D6,EVENTOUT", 5 PE6 "PE6/TRACED3,TIM9_CH2,SPI4_MOSI,SAI1_SD_A,FMC_A22,DCMI_D7,EVENTOUT", 10 PF0 "PF0/I2C2_SDA,FMC_A0,EVENTOUT", 11 PF1 "PF1/I2C2_SCL,FMC_A1,EVENTOUT", 12 PF2 "PF2/I2C2_SMBA,FMC_A2,EVENTOUT", 13 PF3 "PF3/FMC_A3,EVENTOUT/ADC3_IN9", 14 PF4 "PF4/FMC_A4,EVENTOUT/ADC3_IN14", 15 PF5 "PF5/FMC_A5,EVENTOUT/ADC3_IN15", 18 PF6 "PF6/TIM10_CH1,SAI1_SD_B,QUADSPI_BK1_IO3,EVENTOUT/ADC3_IN4", 19 PF7 "PF7/TIM11_CH1,SAI1_MCLK_B,QUADSPI_BK1_IO2,EVENTOUT/ADC3_IN5", 20 PF8 "PF8/SAI1_SCK_B,TIM13_CH1,QUADSPI_BK1_IO0,EVENTOUT/ADC3_IN6", 21 PF9 "PF9/SAI1_FS_B,TIM14_CH1,QUADSPI_BK1_IO1,EVENTOUT/ADC3_IN7", 22 PF10 "PF10/DCMI_D11,EVENTOUT/ADC3_IN8", 49 PF11 "PF11/SAI2_SD_B,FMC_SDNRAS,DCMI_D12,EVENTOUT", 50 PF12 "PF12/FMC_A6,EVENTOUT", 53 PF13 "PF13/FMPI2C1_SMBA,FMC_A7,EVENTOUT", 54 PF14 "PF14/FMPI2C1_SCL,FMC_A8,EVENTOUT", 55 PF15 "PF15/FMPI2C1_SDA,FMC_A9,EVENTOUT", 56 PG0 "PG0/FMC_A10,EVENTOUT", 57 PG1 "PG1/FMC_A11,EVENTOUT", 58 PE7 "PE7/TIM1_ETR,UART5_RX,QUADSPI_BK2_IO0,FMC_D4,EVENTOUT", 59 PE8 "PE8/TIM1_CH1N,UART5_TX,QUADSPI_BK2_IO1,FMC_D5,EVENTOUT", 60 PE9 "PE9/TIM1_CH1,QUADSPI_BK2_IO2,FMC_D6,EVENTOUT", 63 PE10 "PE10/TIM1_CH2N,QUADSPI_BK2_IO3,FMC_D7,EVENTOUT", 64 PE11 "PE11/TIM1_CH2,SPI4_NSS,SAI2_SD_B,FMC_D8,EVENTOUT", 65 PE12 "PE12/TIM1_CH3N,SPI4_SCK,SAI2_SCK_B,FMC_D9,EVENTOUT", 66 PE13 "PE13/TIM1_CH3,SPI4_MISO,SAI2_FS_B,FMC_D10,EVENTOUT", 67 PE14 "PE14/TIM1_CH4,SPI4_MOSI,SAI2_MCLK_B,FMC_D11,EVENTOUT", 68 PE15 "PE15/TIM1_BKIN,FMC_D12,EVENTOUT", 77 PD8 "PD8/USART3_TX,SPDIFRX_IN1,FMC_D13,EVENTOUT", 78 PD9 "PD9/USART3_RX,FMC_D14,EVENTOUT", 79 PD10 "PD10/USART3_CK,FMC_D15,EVENTOUT", 80 PD11 "PD11/FMPI2C1_SMBA,USART3_CTS,QUADSPI_BK1_IO0,SAI2_SD_A,FMC_A16,EVENTOUT", 81 PD12 "PD12/TIM4_CH1,FMPI2C1_SCL,USART3_RTS,QUADSPI_BK1_IO1,SAI2_FS_A,FMC_A17,EVENTOUT", 82 PD13 "PD13/TIM4_CH2,FMPI2C1_SDA,QUADSPI_BK1_IO3,SAI2_SCK_A,FMC_A18,EVENTOUT", 85 PD14 "PD14/TIM4_CH3,FMPI2C1_SCL,SAI2_SCK_A,FMC_D0,EVENTOUT", 86 PD15 "PD15/TIM4_CH4,FMPI2C1_SDA,FMC_D1,EVENTOUT", 87 PG2 "PG2/FMC_A12,EVENTOUT", 88 PG3 "PG3/FMC_A13,EVENTOUT", 89 PG4 "PG4/FMC_A14/FMC_BA0,EVENTOUT", 90 PG5 "PG5/FMC_A15/FMC_BA1,EVENTOUT", 91 PG6 "PG6/QUADSPI_BK1_NCS,DCMI_D12,EVENTOUT", 92 PG7 "PG7/USART6_CK,FMC_INT,DCMI_D13,EVENTOUT", 93 PG8 "PG8/SPDIFRX_IN2,USART6_RTS,FMC_SDCLK,EVENTOUT", 114 PD0 "PD0/SPI4_MISO,SPI3_MOSI/I2S3_SD,CAN1_RX,FMC_D2,EVENTOUT", 115 PD1 "PD1/SPI2_NSS/I2S2_WS,CAN1_TX,FMC_D3,EVENTOUT", 116 PD2 "PD2/TIM3_ETR,UART5_RX,SDIO_CMD,DCMI_D11,EVENTOUT", 117 PD3 "PD3/TRACED1,SPI2_SCK/I2S2_CK,USART2_CTS,QUADSPI_CLK,FMC_CLK,DCMI_D5,EVENTOUT", 118 PD4 "PD4/USART2_RTS,FMC_NOE,EVENTOUT", 119 PD5 "PD5/USART2_TX,FMC_NWE,EVENTOUT", 122 PD6 "PD6/SPI3_MOSI/I2S3_SD,SAI1_SD_A,USART2_RX,FMC_NWAIT,DCMI_D10,EVENTOUT", 123 PD7 "PD7/USART2_CK,SPDIFRX_IN0,FMC_NE1,EVENTOUT", 124 PG9 "PG9/SPDIFRX_IN3,USART6_RX,QUADSPI_BK2_IO2,SAI2_FS_B,FMC_NE2/FMC_NCE3,DCMI_VSYNC,EVENTOUT", 125 PG10 "PG10/SAI2_SD_B,FMC_NE3,DCMI_D2,EVENTOUT", 126 PG11 "PG11/SPI4_SCK,SPDIFRX_IN0,DCMI_D3,EVENTOUT", 127 PG12 "PG12/SPI4_MISO,SPDIFRX_IN1,USART6_RTS,FMC_NE4,EVENTOUT", 128 PG13 "PG13/TRACED2,SPI4_MOSI,USART6_CTS,FMC_A24,EVENTOUT", 129 PG14 "PG14/TRACED3,SPI4_NSS,USART6_TX,QUADSPI_BK2_IO3,FMC_A25,EVENTOUT", 132 PG15 "PG15/USART6_CTS,FMC_SDNCAS,DCMI_D13,EVENTOUT", 141 PE0 "PE0/TIM4_ETR,SAI2_MCLK_A,FMC_NBL0,DCMI_D2,EVENTOUT", 142 PE1 "PE1/FMC_NBL1,DCMI_D3,EVENTOUT"
part C pins: 6 VBAT (power), 16 VSS (power), 17 VDD (power), 30 VDD (power), 31 VSSA (power), 33 VDDA (power), 38 VSS (power), 39 VDD (power), 51 VSS (power), 52 VDD (power), 61 VSS (power), 62 VDD (power), 72 VDD (power), 83 VSS (power), 84 VDD (power), 94 VSS (power), 95 VDDUSB (power), 107 VSS (power), 108 VDD (power), 120 VSS (power), 121 VDD (power), 130 VSS (power), 131 VDD (power), 144 VDD (power)

## IC TC7S02F NOR SOT-23-5
designator U?
=Description
part A pins: 1, 2, 4
part B pins: 3, 5
part B text: V+; GND

## IC TC7ST02F NOR SOT-23-5
designator U?
=Description
part A pins: 1, 2, 4
part B pins: 3, 5
part B text: V+; GND

## IC TC7ST08F AND SOT-23-5
designator U?
=Description
part A pins: 1, 2, 4
part B pins: 3 GND, 5 VCC
part A text: &

## IC TC7ST14F INV SOT-23-5
designator U?
=Description
part A pins: 2, 4
part B pins: 3, 5
part B text: V+; GND

## IC TDA7052AT BTL AUDIO AMP SO-8
designator U?
=Description
pins: 1, 2, 3, 4, 5, 6, 8
text: AUDIO AMP; VP; IN+; OUT+; VC; OUT-; GND1; GND2

## IC TL431A VREF SOT-23
designator U?
=Description
pins: 1 C, 2 REF, 3 A
text: 2.5VREF

## IC TLC2272CD OP-AMP SO-8
designator U?
=Description
part A pins: 1, 2, 3
part B pins: 5, 6, 7
part C pins: 4, 8
part A text: +; -
part B text: +; -
part C text: V+; V-

## IC TLV62080 DC_DC CONV WSON-8
designator U?
=Description
pins: 1 EN, 2 GND, 3 GND, 4 FB, 5 VOS, 6 PG, 7 SW, 8 VIN, 9 EPAD

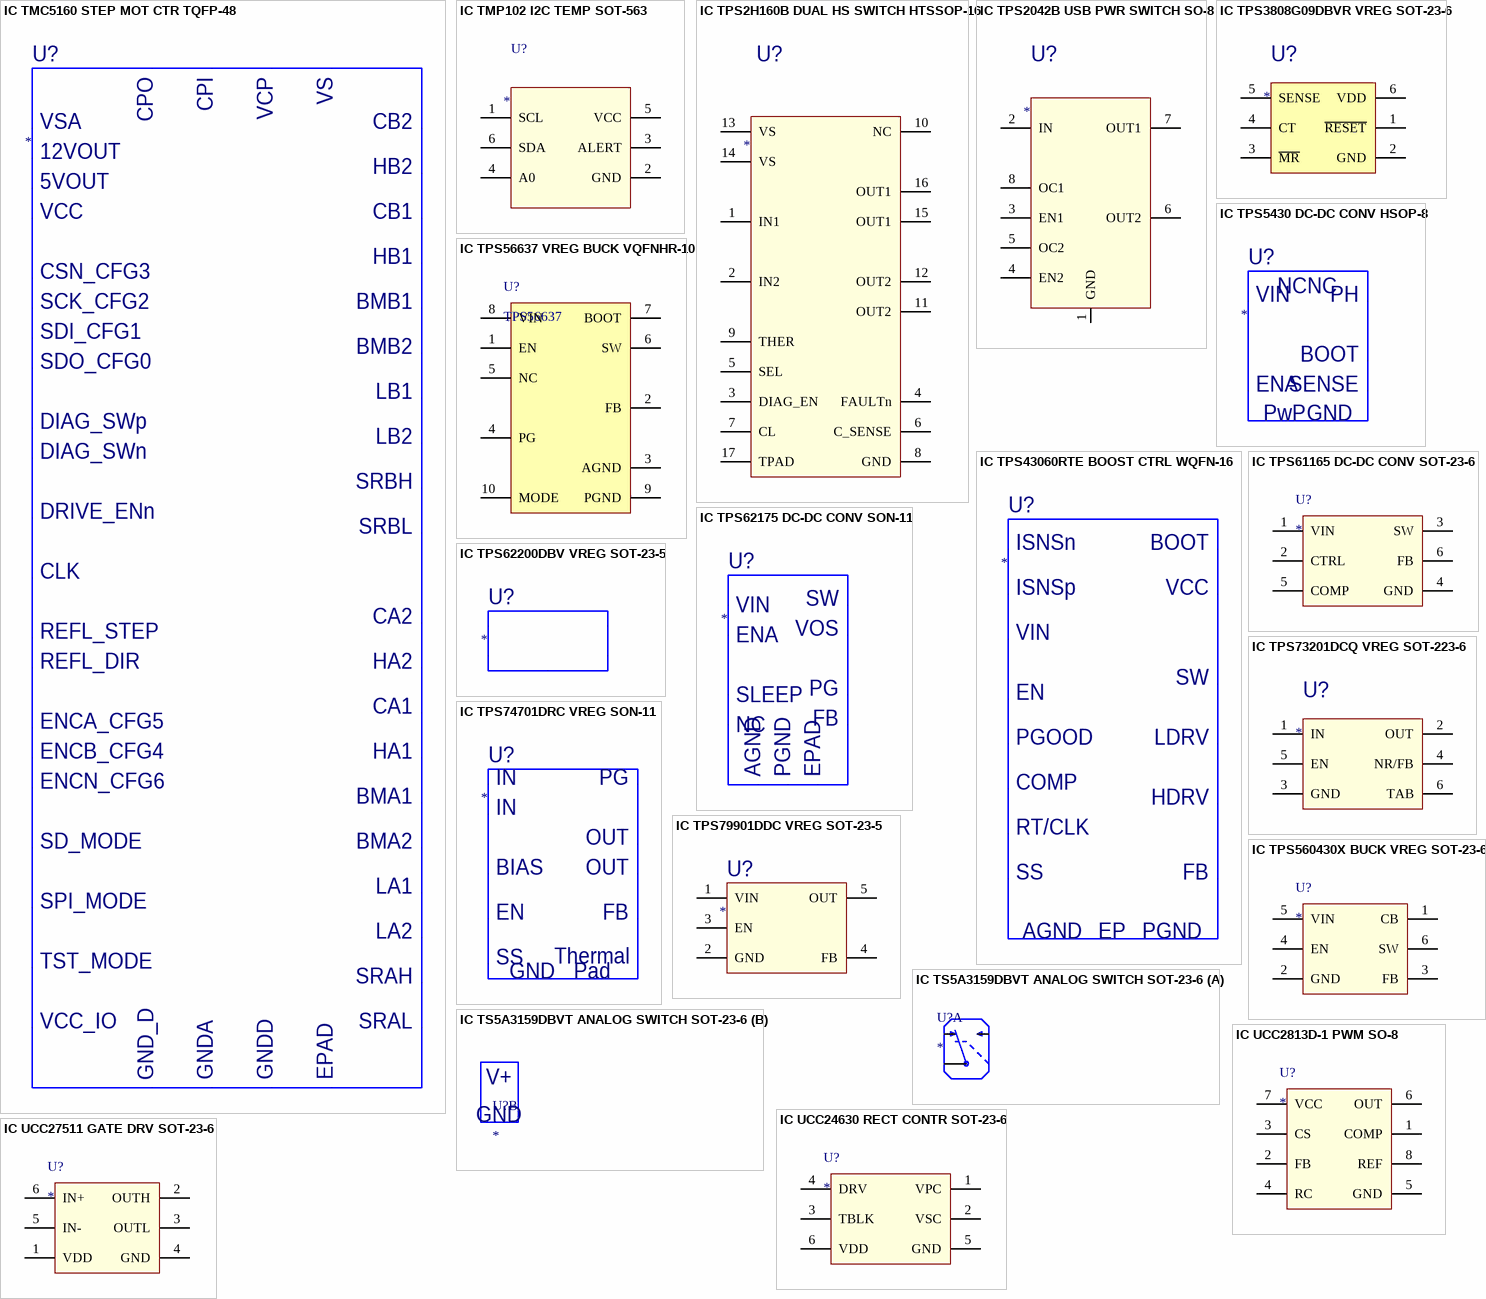
[diagram p14: symbols IC TMC5160 STEP MOT CTR TQFP-48 to IC UCC27511 GATE DRV SOT-23-6]

## IC TMC5160 STEP MOT CTR TQFP-48
designator U?
=Description
pins: 1, 2, 3, 4, 5, 6, 7, 8, 9, 10, 11, 12, 13, 14, 15, 16, 17, 18, 19, 20, 21, 22, 23, 24, 25, 26, 27, 28, 29, 30, 31, 32, 33, 34, 35, 36, 37, 38, 39, 40, 41, 42, 43, 44, 45, 46, 47, 48, 49
text: CPO; CPI; VCP; VS; VSA; CB2; 12VOUT; HB2; 5VOUT; VCC; CB1; HB1; CSN_CFG3; SCK_CFG2; BMB1; SDI_CFG1; BMB2; SDO_CFG0; LB1; DIAG_SWp; LB2; DIAG_SWn; SRBH; DRIVE_ENn; SRBL; CLK; CA2; REFL_STEP; REFL_DIR; HA2; CA1; ENCA_CFG5; ENCB_CFG4; HA1; ENCN_CFG6; BMA1; SD_MODE; BMA2; LA1; SPI_MODE; LA2; TST_MODE; SRAH; VCC_IO; SRAL; GND_D; GNDA; GNDD; EPAD

## IC TMP102 I2C TEMP SOT-563
designator U?
=Description
pins: 1 SCL, 2 GND (power), 3 ALERT, 4 A0, 5 VCC (power), 6 SDA

## IC TPS2H160B DUAL HS SWITCH HTSSOP-16
designator U?
=Description
pins: 1 IN1, 2 IN2, 3 DIAG_EN, 4 FAULTn, 5 SEL, 6 C_SENSE, 7 CL, 8 GND, 9 THER, 10 NC, 11 OUT2, 12 OUT2, 13 VS, 14 VS, 15 OUT1, 16 OUT1, 17 TPAD

## IC TPS2042B USB PWR SWITCH SO-8
designator U?
=Description
pins: 1 GND, 2 IN, 3 EN1, 4 EN2, 5 OC2, 6 OUT2, 7 OUT1, 8 OC1

## IC TPS3808G09DBVR VREG SOT-23-6
designator U?
=Description
pins: 1 ~{RESET} (hiz) "R\E\S\E\T\ is an open-drain output that is driven to a low impedance state when R\E\S\E\T\ is asserted (either the SENSE input is lower than the threshold voltage (VIT) or the M\R\ pin is set to a logic low). R\E\S\E\T\ will (See Datasheet)", 2 GND (power) "Ground", 3 ~{MR} "Driving the manual reset pin (M\R\) low asserts R\E\S\E\T\. M\R\ is internally tied to VDD by a 90k ohm pull-up resistor", 4 CT "Reset period programming pin. Connecting this pin to VDD through a 40k ohm to 200k ohm resistor or leaving it open results in fixed delay times (see Electrical Characteristics). Connecting this pin to a ground referenced (See Datasheet)", 5 SENSE "This pin is connected to the voltage to be monitored. If the voltage at this terminal drops below the threshold voltage VIT, then R\E\S\E\T\ is asserted.", 6 VDD (power) "Supply voltage. It is good analog design practice to place a 0.1µF ceramic capacitor close to this pin."

## IC TPS5430 DC-DC CONV HSOP-8
designator U?
=Description
pins: 1, 2, 3, 4, 5, 6, 7, 8, 9
text: NC; VIN; PH; BOOT; ENA; SENSE; PwP; GND

## IC TPS43060RTE BOOST CTRL WQFN-16
designator U?
=Description
pins: 1, 2, 3, 4, 5, 6, 7, 8, 9, 10, 11, 12, 13, 14, 15, 16, 17
text: ISNSn; BOOT; ISNSp; VCC; VIN; SW; EN; PGOOD; LDRV; COMP; HDRV; RT/CLK; SS; FB; AGND; EP; PGND

## IC TPS56637 VREG BUCK VQFNHR-10
designator U?, comment TPS56637
=Description
footprint Model Name (Footprint not found)
footprint Model Name (Footprint not found)
pins: 1 EN, 2 FB, 3 AGND (power), 4 PG (oc), 5 NC, 6 SW (power), 7 BOOT, 8 VIN (power), 9 PGND (power), 10 MODE (power)

## IC TPS61165 DC-DC CONV SOT-23-6
designator U?
=Description
pins: 1 VIN, 2 CTRL, 3 SW, 4 GND, 5 COMP, 6 FB

## IC TPS62175 DC-DC CONV SON-11
designator U?
=Description
pins: 1, 2, 3, 4, 5, 6, 7, 8, 9, 10, 11
text: VIN; SW; ENA; VOS; SLEEP; PG; NC; FB; AGND; PGND; EPAD

## IC TPS62200DBV VREG SOT-23-5
designator U?
=Description
pins: 1 VI, 2 GND, 3 EN, 4 FB, 5 SW

## IC TPS73201DCQ VREG SOT-223-6
designator U?
=Description
pins: 1 IN, 2 OUT, 3 GND, 4 NR/FB, 5 EN, 6 TAB

## IC TPS74701DRC VREG SON-11
designator U?
=Description
pins: 1, 2, 3, 4, 5, 6, 7, 8, 9, 10, 11
text: IN; PG; OUT; BIAS; EN; FB; Thermal; SS; GND; Pad

## IC TPS79901DDC VREG SOT-23-5
designator U?
=Description
pins: 1 VIN, 2 GND, 3 EN, 4 FB, 5 OUT

## IC TPS560430X BUCK VREG SOT-23-6
designator U?
=Description
pins: 1 CB, 2 GND, 3 FB, 4 EN, 5 VIN, 6 SW

## IC TS5A3159DBVT ANALOG SWITCH SOT-23-6
designator U?
=Description
part A pins: 1, 3, 4, 6
part B pins: 2, 5
part B text: V+; GND

## IC UCC2813D-1 PWM SO-8
designator U?
=Description
pins: 1 COMP, 2 FB, 3 CS, 4 RC, 5 GND, 6 OUT, 7 VCC, 8 REF

## IC UCC24630 RECT CONTR SOT-23-6
designator U?
=Descriprion
pins: 1 VPC, 2 VSC, 3 TBLK, 4 DRV, 5 GND, 6 VDD

## IC UCC27511 GATE DRV SOT-23-6
designator U?
=Description
pins: 1 VDD, 2 OUTH, 3 OUTL, 4 GND, 5 IN-, 6 IN+

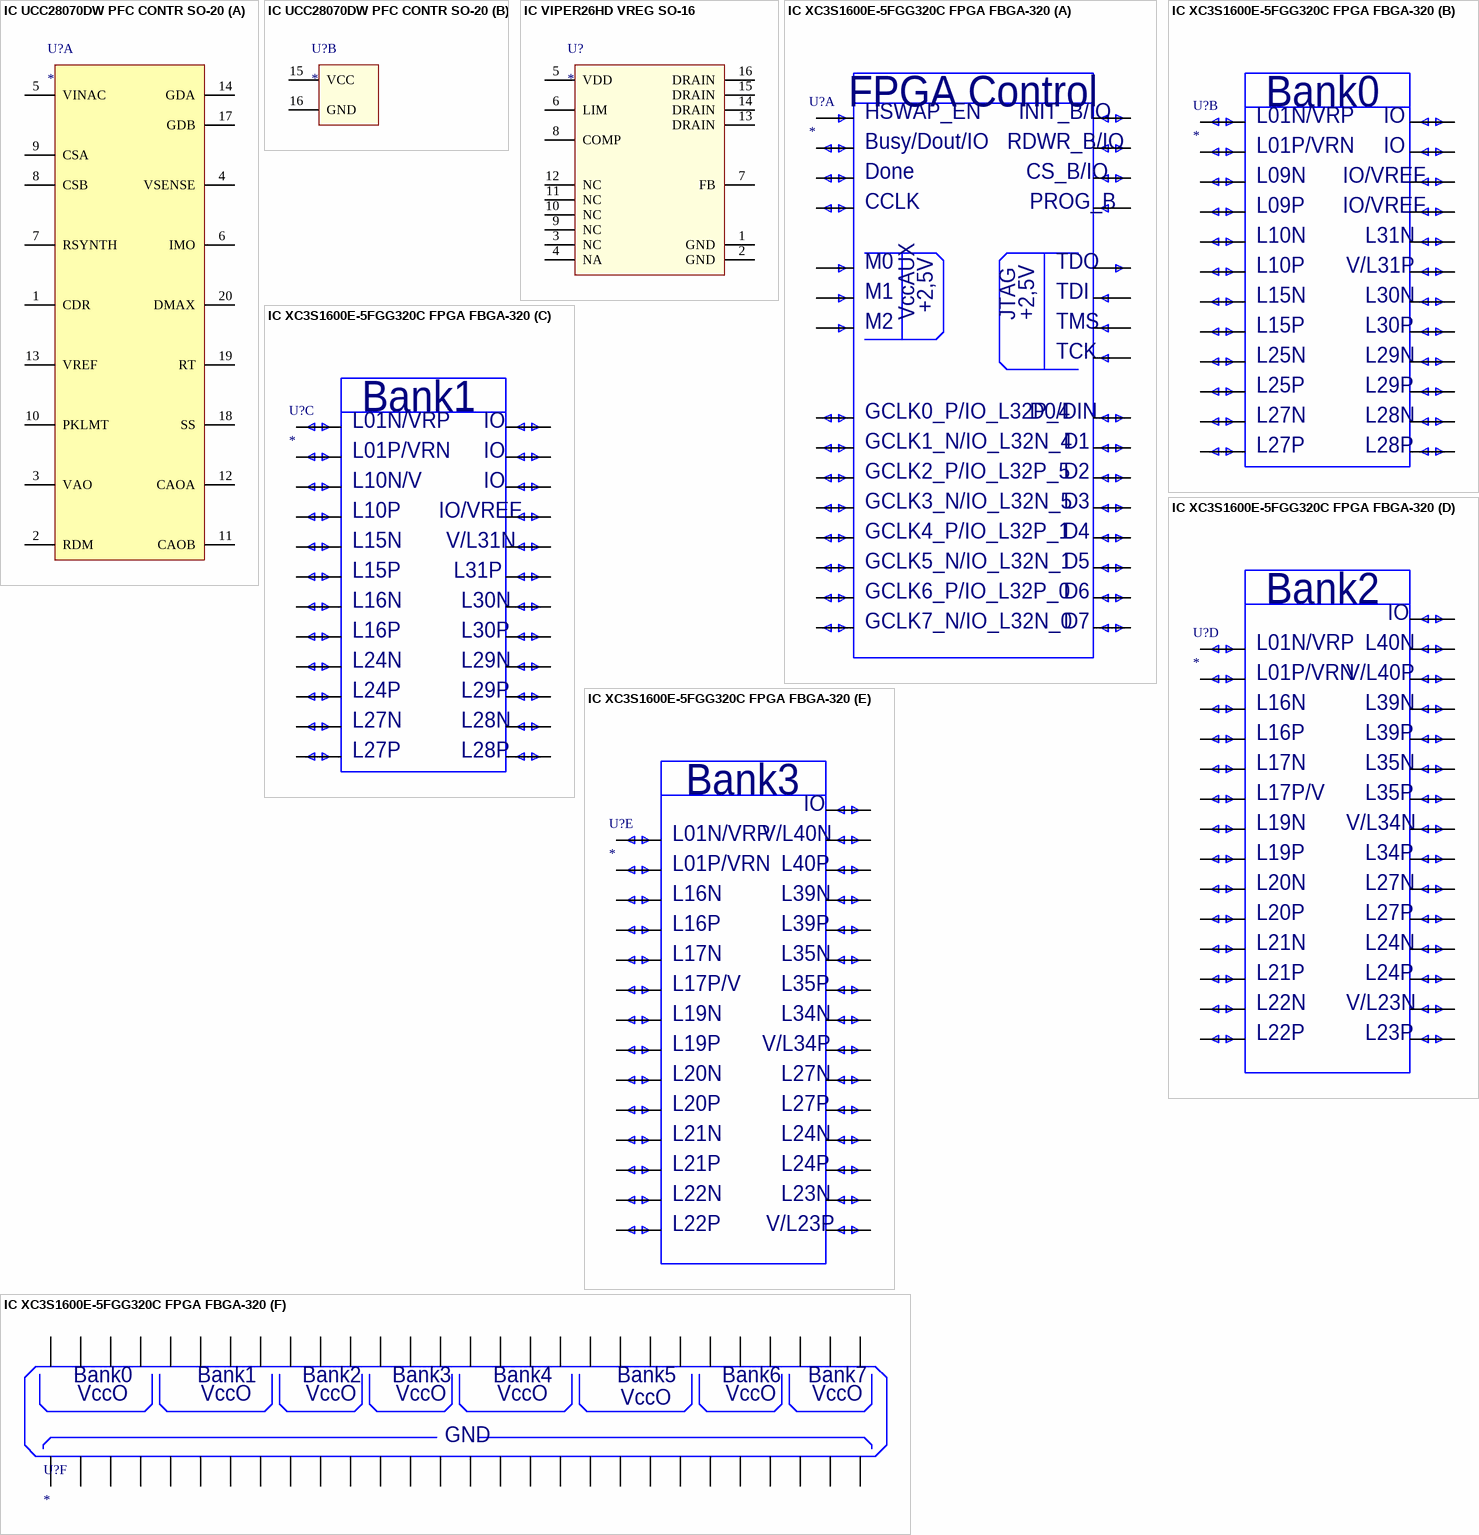
[diagram p15: symbols IC UCC28070DW PFC CONTR SO-20 to IC XC3S1600E-5FGG320C FPGA FBGA-320]

## IC UCC28070DW PFC CONTR SO-20
designator U?
=Description
part A pins: 1 CDR "Dither Rate Capacitor. Frequency-dithering timing pin. An external capacitor to GND programs the rate of oscillator dither. Connect the CDR pin to the VREF pin to disable dithering.", 2 RDM "Dither Magnitude Resistor. Frequency-dithering magnitude and external synchronization pin. An external resistor to GND programs the magnitude of oscillator frequency dither. When frequency  dithering is disabled (CDR > 5 V), (See Datasheet)", 3 VAO "Voltage Amplifier Output. Output of transconductance voltage error amplifier. Internally  connected to Multiplier input and Zero-Power comparator. Connect the voltage regulation loop compensation components between this pin (See Datasheet)", 4 VSENSE "Output Voltage Sense. Internally connected to the inverting input of the transconductance  voltage error amplifier in addition to the positive terminal of the Current Synthesis difference amplifier. Also connected to the (See Datasheet)", 5 VINAC "Scaled AC Line Input Voltage. Internally connected to the Multiplier and negative terminal of the  Current Synthesis difference amplifier. Connect a resistor-divider network between VIN, VINAC, and GND identical to the PFC (See Datasheet)", 6 IMO "Multiplier Current Output. Connect a resistor between this pin and GND to set the multiplier gain.", 7 RSYNTH "Current Synthesis Down-Slope Programming. Connect a resistor between this pin and GND to set the magnitude of the current synthesizer down-slope. Connecting RSYNTH to VREF will disable current synthesis and connect CSA and (See Datasheet)", 8 CSB "Phase B Current Sense Input. During the on-time of GDB, CSB is internally connected to the inverting input of Phase B’s current amplifier through the current synthesis stage.", 9 CSA "Phase A Current Sense Input. During the on-time of GDA, CSA is internally connected to the inverting input of Phase A’s current amplifier through the current synthesis stage.", 10 PKLMT "Peak Current Limit Programming. Connect a resistor-divider network between VREF and this pin to set the voltage threshold of the cycle-by-cycle peak current limiting comparators. Allows adjustment for desired deltaILB.", 11 CAOB "Phase B Current Amplifier Output. Output of phase B’s transconductance current amplifier.  Internally connected to the inverting input of phase B’s PWM comparator for trailing-edge modulation. Connect the current regulation (See Datasheet)", 12 CAOA "Phase A Current Amplifier Output. Output of phase A’s transconductance current amplifier. Internally connected to the inverting input of phase A’s PWM comparator for trailing-edge modulation. Connect the current regulation (See Datasheet)", 13 VREF "6-V Reference Voltage and Internal Bias Voltage. Connect a 0.1-uF ceramic bypass capacitor as close as possible to this pin and GND.", 14 GDA "Phase A’s Gate Drive. This limited-current output is intended to connect to a separate gate-drive  device suitable for driving the Phase A switching component(s). The output voltage is typically clamped to 13.5 V.", 17 GDB "Phase B’s Gate Drive. This limited-current output is intended to connect to a separate  gate-drivedevice suitable for driving the Phase B switching component(s). The output voltage is typically clamped to 13.5 V.", 18 SS "Soft-Start and External Fault Interface. Connect a capacitor to GND on this pin to set the soft-start slew rate based on an internally-fixed 10-uA current source. The regulation reference voltage for VSENSE is clamped to VSS (See Datasheet)", 19 RT "Timing Resistor. Oscillator frequency programming pin. A resistor to GND sets the running frequency of the internal oscillator.", 20 DMAX "Maximum Duty-Cycle Resistor. Maximum PWM duty-cycle programming pin. A resistor to GND sets the PWM maximum duty-cycle based on the ratio of RDMX/RRT."
part B pins: 15 VCC "Bias Voltage Input. Connect a 0.1-uF ceramic bypass capacitor as close as possible to this pin and GND.", 16 GND "Device Ground Reference. Connect all compensation and programming resistor and capacitor  networks to this pin. Connect this pin to the system through a separate trace for high-current noise isolation."

## IC VIPER26HD VREG SO-16
designator U?
=Description
pins: 1 GND, 2 GND, 3 NC, 4 NA, 5 VDD, 6 LIM, 7 FB, 8 COMP, 9 NC, 10 NC, 11 NC, 12 NC, 13 DRAIN, 14 DRAIN, 15 DRAIN, 16 DRAIN

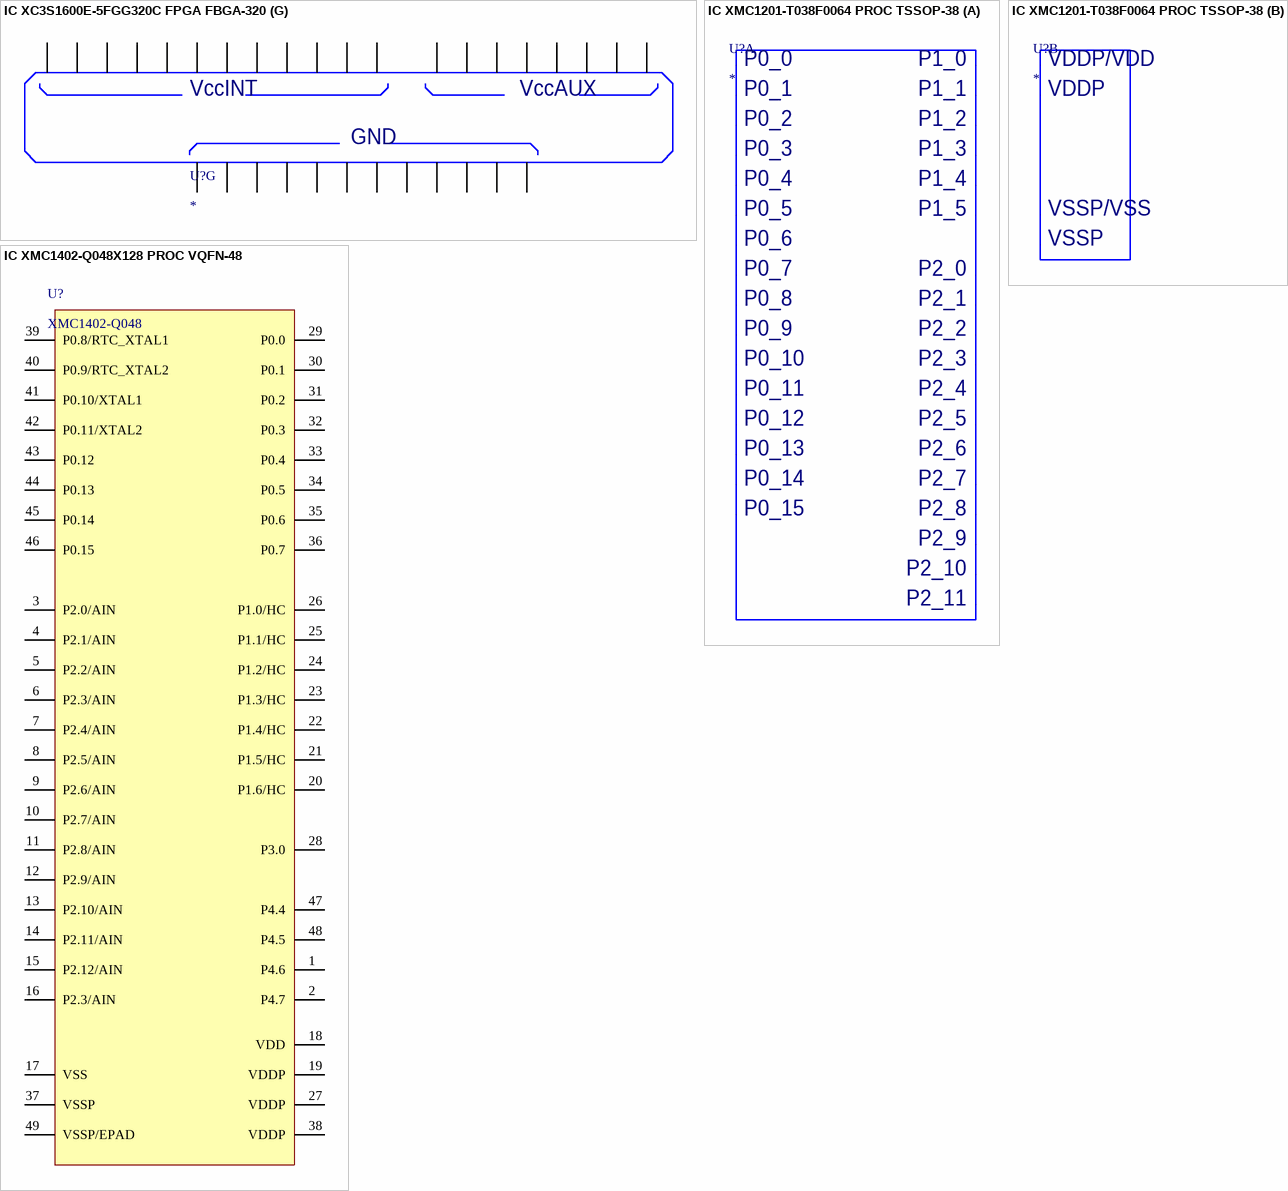
[diagram p16: symbols IC XC3S1600E-5FGG320C FPGA FBGA-320 to IC XMC1402-Q048X128 PROC VQFN-48]

## IC XC3S1600E-5FGG320C FPGA FBGA-320
designator U?
=Description
part A pins: A1, A2, A3, A4, A5, A6, A7, A8, A9, A10, A11, A12, A13, A14, A15, A16, A17, A18, B1, B2, B3, B4, B5, B6, B7, B8, B9, B10, B11, B12, B13
part B pins: A1, A2, A3, A4, A5, A6, A7, A8, A9, A10, A11, A12, A13, A14, A15, A16, A17, A18, B1, B2, B3, B4, B5, B6
part C pins: A1, A2, A3, A4, A5, A6, A7, A8, A9, A10, A11, A12, A13, A14, A15, A16, A17, A18, B1, B2, B3, B4, B5, B6
part D pins: A1, A2, A3, A4, A5, A6, A7, A8, A9, A10, A11, A12, A13, A14, A15, A16, A17, A18, B1, B2, B3, B4, B5, B6, B7, B8, B9, B10, B11
part E pins: A1, A2, A3, A4, A5, A6, A7, A8, A9, A10, A11, A12, A13, A14, A15, A16, A17, A18, B1, B2, B3, B4, B5, B6, B7, B8, B9, B10, B11
part F pins: A1, A2, A3, A4, A5, A6, A7, A8, A9, A10, A11, A12, A13, A14, A15, A16, A17, A18, B1, B2, B3, B4, B5, B6, B7, B8, B9, B10, B11, B12, B13, B14, B15, B16, B17, B18, C1, C2, C3, C4, C5, C6, C7, C8, C9, C10, C11, C12, C13, C14, C15, C16, C17, C18, D1, D2
part G pins: B7, B12, E5, E14, F6, F13, G2, G17, J8, J11, K8, K11, K16, L8, L9, L10, L11, M2, M7, M12, M17, N6, N13, P5, P14, T9, U2, U7, U12, U17, V1, V18
part A text: FPGA Control; HSWAP_EN; INIT_B/IO; Busy/Dout/IO; RDWR_B/IO; Done; CS_B/IO; CCLK; PROG_B; M0; TDO; M1; TDI; +2,5V; VccAUX; JTAG; TMS; TCK; GCLK0_P/IO_L32P_4; D0/DIN; GCLK1_N/IO_L32N_4; GCLK2_P/IO_L32P_5; GCLK3_N/IO_L32N_5; D3; GCLK4_P/IO_L32P_1; D4; GCLK5_N/IO_L32N_1; D5; GCLK6_P/IO_L32P_0; D6; GCLK7_N/IO_L32N_0; D7
part B text: Bank0; L01N/VRP; IO; L01P/VRN; L09N; IO/VREF; L09P; L10N; L31N; L10P; V/L31P; L15N; L30N; L15P; L30P; L25N; L29N; L25P; L29P; L27N; L28N; L27P; L28P
part C text: Bank1; L01N/VRP; IO; L01P/VRN; L10N/V; L10P; IO/VREF; L15N; V/L31N; L15P; L31P; L16N; L30N; L16P; L30P; L24N; L29N; L24P; L29P; L27N; L28N; L27P; L28P
part D text: Bank2; IO; L01N/VRP; L40N; L01P/VRN; V/L40P; L16N; L39N; L16P; L39P; L17N; L35N; L17P/V; L35P; L19N; V/L34N; L19P; L34P; L20N; L27N; L20P; L27P; L21N; L24N; L21P; L24P; L22N; V/L23N; L22P; L23P
part E text: Bank3; IO; L01N/VRP; V/L40N; L01P/VRN; L40P; L16N; L39N; L16P; L39P; L17N; L35N; L17P/V; L35P; L19N; L34N; L19P; V/L34P; L20N; L27N; L20P; L27P; L21N; L24N; L21P; L24P; L22N; L23N; L22P; V/L23P
part F text: Bank0; Bank1; Bank2; Bank3; Bank4; Bank5; Bank6; Bank7; VccO; GND
part G text: VccINT; VccAUX; GND

## IC XMC1201-T038F0064 PROC TSSOP-38
designator U?
=Description
part A pins: 1, 2, 3, 4, 5, 6, 7, 8, 11, 12, 13, 14, 15, 16, 17, 18, 19, 20, 21, 22, 23, 24, 27, 28, 29, 30, 31, 32, 33, 34, 35, 36, 37, 38
part B pins: 9, 10, 25, 26
part A text: P0_0; P1_0; P0_1; P1_1; P0_2; P1_2; P0_3; P1_3; P0_4; P1_4; P0_5; P1_5; P0_6; P0_7; P2_0; P0_8; P2_1; P0_9; P2_2; P0_10; P2_3; P0_11; P2_4; P0_12; P2_5; P0_13; P2_6; P0_14; P2_7; P0_15; P2_8; P2_9; P2_10; P2_11
part B text: VDDP/VDD; VDDP; VSSP/VSS; VSSP